# Altium schematic symbol library dungvh03-ICs.SchLib: 787 symbols (part 30 of 30)
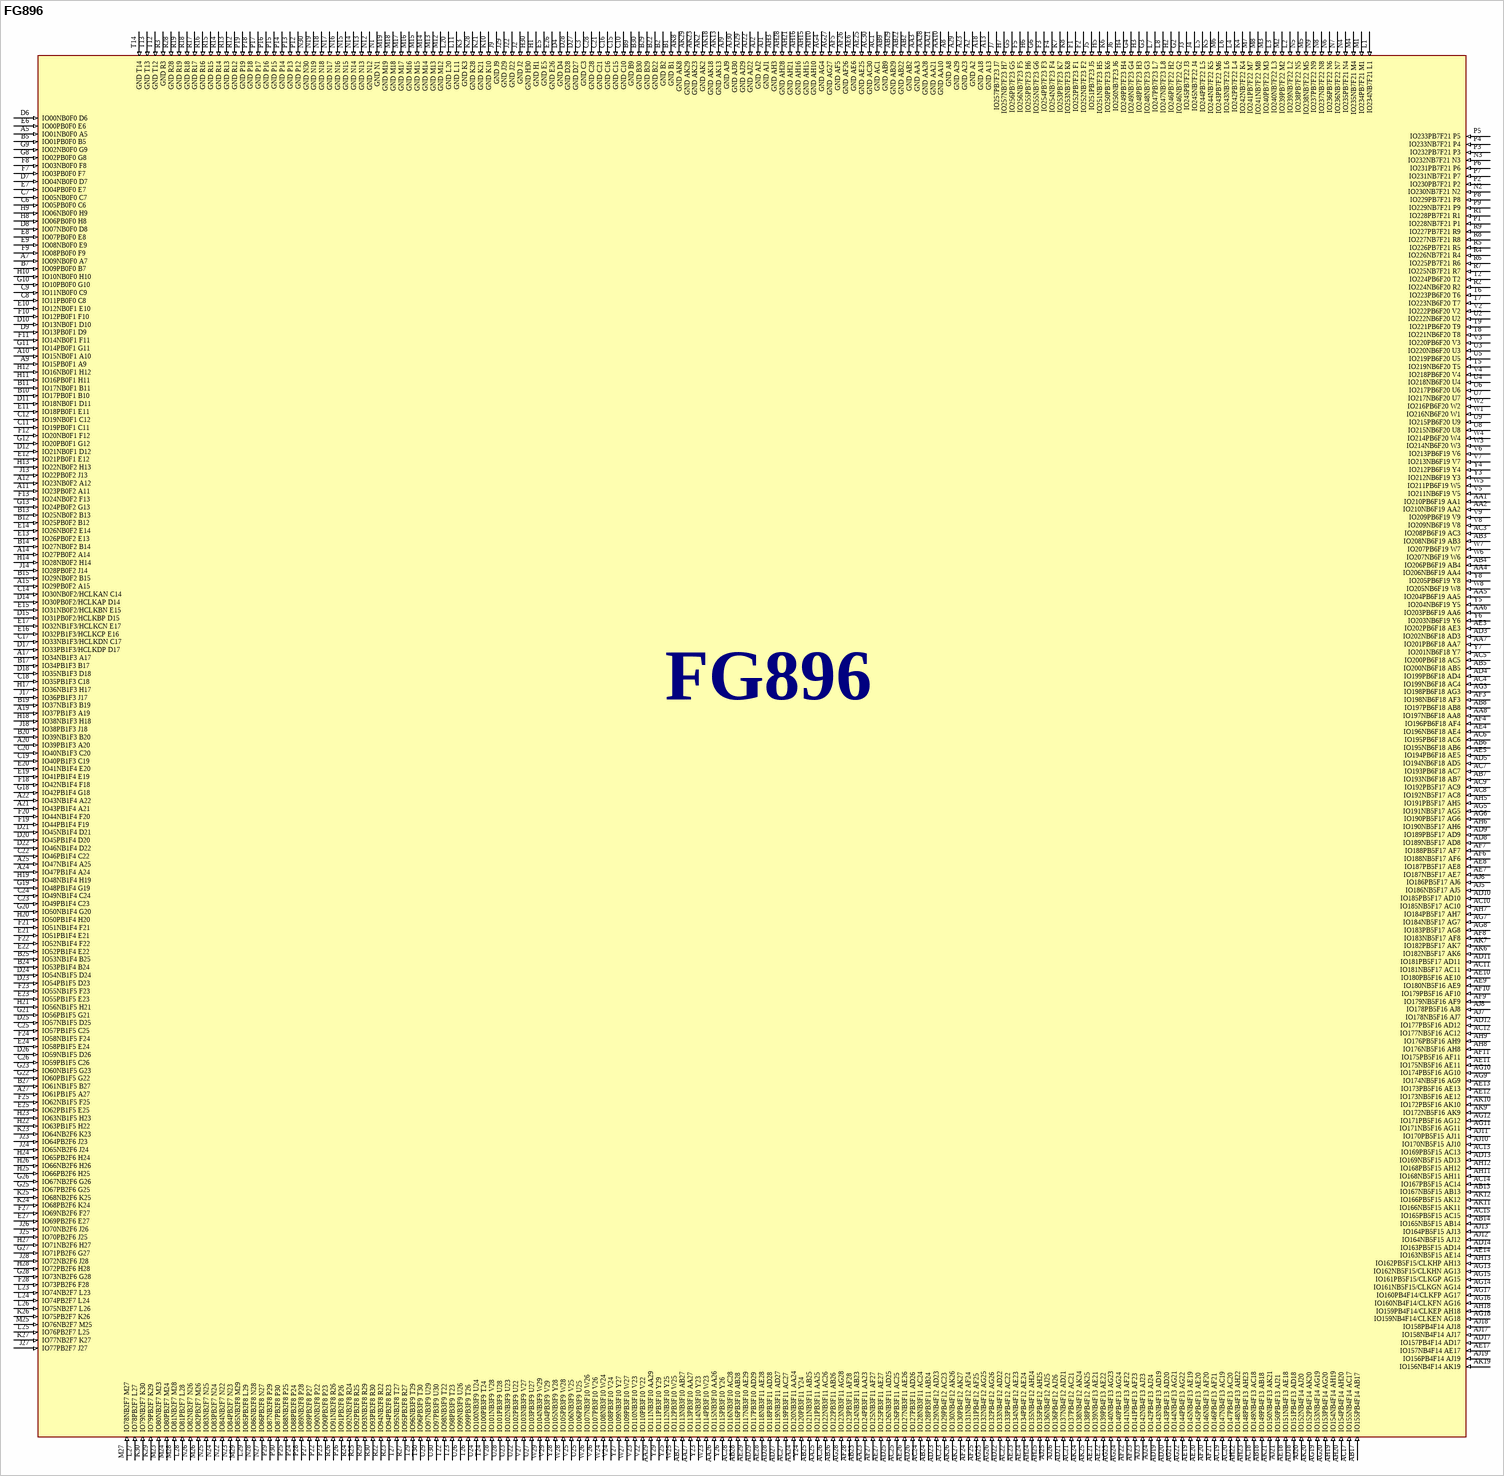
[diagram p127: symbol FG896]

## FG896
designator *
footprint FG896 (BGA, 896-Leads, Body 31.00x31.00mmx2.23mm, Pitch 1.00mm)
pins: A2 GND A2 (in), A5 IO01NB0F0 A5 (in), A7 IO09NB0F0 A7 (in), A8 GND A8 (in), A9 IO15PB0F1 A9 (in), A10 IO15NB0F1 A10 (in), A11 IO23PB0F2 A11 (in), A12 IO23NB0F2 A12 (in), A13 GND A13 (in), A14 IO27PB0F2 A14 (in), A15 IO29PB0F2 A15 (in), A17 IO34NB1F3 A17 (in), A18 GND A18 (in), A19 IO37PB1F3 A19 (in), A20 IO39PB1F3 A20 (in), A21 IO43PB1F4 A21 (in), A22 IO43NB1F4 A22 (in), A23 GND A23 (in), A24 IO47PB1F4 A24 (in), A25 IO47NB1F4 A25 (in), A27 IO61PB1F5 A27 (in), A29 GND A29 (in), AA1 IO210PB6F19 AA1 (in), AA2 IO210NB6F19 AA2 (in), AA3 GND AA3 (in), AA4 IO206NB6F19 AA4 (in), AA5 IO204PB6F19 AA5 (in), AA6 IO203PB6F19 AA6 (in), AA7 IO201PB6F18 AA7 (in), AA8 IO197NB6F18 AA8 (in), AA10 GND AA10 (in), AA21 GND AA21 (in), AA23 IO124PB3F11 AA23 (in), AA24 IO120NB3F11 AA24 (in), AA25 IO121PB3F11 AA25 (in), AA26 IO115NB3F10 AA26 (in), AA27 IO113PB3F10 AA27 (in), AA28 GND AA28 (in), AA29 IO111NB3F10 AA29 (in), AB2 GND AB2 (in), AB3 IO208NB6F19 AB3 (in), AB4 IO206PB6F19 AB4 (in), AB5 IO200NB6F18 AB5 (in), AB6 IO195NB6F18 AB6 (in), AB7 IO193NB6F18 AB7 (in), AB8 IO197PB6F18 AB8 (in), AB9 GND AB9 (in), AB13 IO167NB5F15 AB13 (in), AB14 IO165NB5F15 AB14 (in), AB17 IO155PB4F14 AB17 (in), AB18 IO149PB4F13 AB18 (in), AB22 GND AB22 (in), AB23 IO124NB3F11 AB23 (in), AB24 IO128PB3F11 AB24 (in), AB25 IO121NB3F11 AB25 (in), AB26 IO122PB3F11 AB26 (in), AB27 IO113NB3F10 AB27 (in), AB28 IO116PB3F10 AB28 (in), AB29 GND AB29 (in), AC1 GND AC1 (in), AC3 IO208PB6F19 AC3 (in), AC4 IO199NB6F18 AC4 (in), AC5 IO200PB6F18 AC5 (in), AC6 IO195PB6F18 AC6 (in), AC7 IO193PB6F18 AC7 (in), AC8 IO192NB5F17 AC8 (in), AC9 IO192PB5F17 AC9 (in), AC10 IO185NB5F17 AC10 (in), AC11 IO181NB5F17 AC11 (in), AC12 IO177NB5F16 AC12 (in), AC13 IO169PB5F15 AC13 (in), AC14 IO167PB5F15 AC14 (in), AC15 IO165PB5F15 AC15 (in), AC17 IO155NB4F14 AC17 (in), AC18 IO149NB4F13 AC18 (in), AC19 IO147NB4F13 AC19 (in), AC20 IO147PB4F13 AC20 (in), AC21 IO137PB4F12 AC21 (in), AC22 IO133PB4F12 AC22 (in), AC23 IO129PB4F12 AC23 (in), AC24 IO128NB3F11 AC24 (in), AC25 IO126PB3F11 AC25 (in), AC26 IO122NB3F11 AC26 (in), AC27 IO119PB3F11 AC27 (in), AC28 IO116NB3F10 AC28 (in), AC30 GND AC30 (in), AD3 IO202NB6F18 AD3 (in), AD4 IO199PB6F18 AD4 (in), AD5 IO194NB6F18 AD5 (in), AD8 IO189NB5F17 AD8 (in), AD9 IO189PB5F17 AD9 (in), AD10 IO185PB5F17 AD10 (in), AD11 IO181PB5F17 AD11 (in), AD12 IO177PB5F16 AD12 (in), AD13 IO169NB5F15 AD13 (in), AD14 IO163PB5F15 AD14 (in), AD17 IO157PB4F14 AD17 (in), AD18 IO151PB4F13 AD18 (in), AD19 IO143NB4F13 AD19 (in), AD20 IO143PB4F13 AD20 (in), AD21 IO137NB4F12 AD21 (in), AD22 IO133NB4F12 AD22 (in), AD23 IO129NB4F12 AD23 (in), AD25 IO126NB3F11 AD25 (in), AD26 IO127PB3F11 AD26 (in), AD27 IO119NB3F11 AD27 (in), AD28 IO118PB3F11 AD28 (in), AD29 IO117PB3F10 AD29 (in), AE3 IO202PB6F18 AE3 (in), AE4 IO196NB6F18 AE4 (in), AE5 IO194PB6F18 AE5 (in), AE6 GND AE6 (in), AE7 IO187NB5F17 AE7 (in), AE8 IO187PB5F17 AE8 (in), AE9 IO180NB5F16 AE9 (in), AE10 IO180PB5F16 AE10 (in), AE11 IO175NB5F16 AE11 (in), AE12 IO173NB5F16 AE12 (in), AE13 IO173PB5F16 AE13 (in), AE14 IO163NB5F15 AE14 (in), AE17 IO157NB4F14 AE17 (in), AE18 IO151NB4F13 AE18 (in), AE19 IO145NB4F13 AE19 (in), AE20 IO145PB4F13 AE20 (in), AE21 IO139NB4F13 AE21 (in), AE22 IO139PB4F13 AE22 (in), AE23 IO134NB4F12 AE23 (in), AE24 IO134PB4F12 AE24 (in), AE25 GND AE25 (in), AE26 IO127NB3F11 AE26 (in), AE27 IO125PB3F11 AE27 (in), AE28 IO118NB3F11 AE28 (in), AE29 IO117NB3F10 AE29 (in), AF3 IO198NB6F18 AF3 (in), AF4 IO196PB6F18 AF4 (in), AF5 GND AF5 (in), AF6 IO188NB5F17 AF6 (in), AF7 IO188PB5F17 AF7 (in), AF8 IO183NB5F17 AF8 (in), AF9 IO179NB5F16 AF9 (in), AF10 IO179PB5F16 AF10 (in), AF11 IO175PB5F16 AF11 (in), AF20 IO146NB4F13 AF20 (in), AF21 IO146PB4F13 AF21 (in), AF22 IO141NB4F13 AF22 (in), AF23 IO141PB4F13 AF23 (in), AF24 IO131NB4F12 AF24 (in), AF25 IO131PB4F12 AF25 (in), AF26 GND AF26 (in), AF27 IO125NB3F11 AF27 (in), AF28 IO123PB3F11 AF28 (in), AG3 IO198PB6F18 AG3 (in), AG4 GND AG4 (in), AG5 IO191NB5F17 AG5 (in), AG6 IO190PB5F17 AG6 (in), AG7 IO184NB5F17 AG7 (in), AG8 IO183PB5F17 AG8 (in), AG9 IO174NB5F16 AG9 (in), AG10 IO174PB5F16 AG10 (in), AG11 IO171NB5F16 AG11 (in), AG12 IO171PB5F16 AG12 (in), AG13 IO162NB5F15/CLKHN AG13 (in), AG14 IO161NB5F15/CLKGN AG14 (in), AG15 IO161PB5F15/CLKGP AG15 (in), AG16 IO160NB4F14/CLKFN AG16 (in), AG17 IO160PB4F14/CLKFP AG17 (in), AG18 IO159NB4F14/CLKEN AG18 (in), AG19 IO153NB4F14 AG19 (in), AG20 IO153PB4F14 AG20 (in), AG21 IO144NB4F13 AG21 (in), AG22 IO144PB4F13 AG22 (in), AG23 IO140NB4F13 AG23 (in), AG24 IO140PB4F13 AG24 (in), AG25 IO132NB4F12 AG25 (in), AG26 IO132PB4F12 AG26 (in), AG27 GND AG27 (in), AG28 IO123NB3F11 AG28 (in), AH3 GND AH3 (in), AH5 IO191PB5F17 AH5 (in), AH6 IO190NB5F17 AH6 (in), AH7 IO184PB5F17 AH7 (in), AH8 IO176NB5F16 AH8 (in), AH9 IO176PB5F16 AH9 (in), AH10 GND AH10 (in), AH11 IO168NB5F15 AH11 (in), AH12 IO168PB5F15 AH12 (in), AH13 IO162PB5F15/CLKHP AH13 (in), AH15 GND AH15 (in), AH16 GND AH16 (in), AH18 IO159PB4F14/CLKEP AH18 (in), AH19 IO154NB4F14 AH19 (in), AH20 IO154PB4F14 AH20 (in), AH21 GND AH21 (in), AH22 IO148NB4F13 AH22 (in), AH23 IO148PB4F13 AH23 (in), AH24 IO135NB4F12 AH24 (in), AH25 IO135PB4F12 AH25 (in), AH28 GND AH28 (in), AJ1 GND AJ1 (in), AJ2 GND AJ2 (in), AJ5 IO186NB5F17 AJ5 (in), AJ6 IO186PB5F17 AJ6 (in), AJ7 IO178NB5F16 AJ7 (in), AJ8 IO178PB5F16 AJ8 (in), AJ9 GND AJ9 (in), AJ10 IO170NB5F15 AJ10 (in), AJ11 IO170PB5F15 AJ11 (in), AJ12 IO164NB5F15 AJ12 (in), AJ13 IO164PB5F15 AJ13 (in), AJ17 IO158NB4F14 AJ17 (in), AJ18 IO158PB4F14 AJ18 (in), AJ19 IO156PB4F14 AJ19 (in), AJ20 IO152NB4F14 AJ20 (in), AJ21 IO150PB4F13 AJ21 (in), AJ22 GND AJ22 (in), AJ23 IO142NB4F13 AJ23 (in), AJ24 IO142PB4F13 AJ24 (in), AJ25 IO136NB4F12 AJ25 (in), AJ26 IO136PB4F12 AJ26 (in), AJ29 GND AJ29 (in), AJ30 GND AJ30 (in), AK2 GND AK2 (in), AK6 IO182NB5F17 AK6 (in), AK7 IO182PB5F17 AK7 (in), AK8 GND AK8 (in), AK9 IO172NB5F16 AK9 (in), AK10 IO172PB5F16 AK10 (in), AK11 IO166NB5F15 AK11 (in), AK12 IO166PB5F15 AK12 (in), AK13 GND AK13 (in), AK18 GND AK18 (in), AK19 IO156NB4F14 AK19 (in), AK20 IO152PB4F14 AK20 (in), AK21 IO150NB4F13 AK21 (in), AK23 GND AK23 (in), AK24 IO138NB4F12 AK24 (in), AK25 IO138PB4F12 AK25 (in), AK26 IO130NB4F12 AK26 (in), AK27 IO130PB4F12 AK27 (in), AK29 GND AK29 (in), B1 GND B1 (in), B2 GND B2 (in), B5 IO01PB0F0 B5 (in), B7 IO09PB0F0 B7 (in), B9 GND B9 (in), B10 IO17PB0F1 B10 (in), B11 IO17NB0F1 B11 (in), B12 IO25PB0F2 B12 (in), B13 IO25NB0F2 B13 (in), B14 IO27NB0F2 B14 (in), B15 IO29NB0F2 B15 (in), B17 IO34PB1F3 B17 (in), B19 IO37NB1F3 B19 (in), B20 IO39NB1F3 B20 (in), B22 GND B22 (in), B24 IO53PB1F4 B24 (in), B25 IO53NB1F4 B25 (in), B27 IO61NB1F5 B27 (in), B29 GND B29 (in), B30 GND B30 (in), C3 GND C3 (in), C6 IO05PB0F0 C6 (in), C7 IO05NB0F0 C7 (in), C8 IO11PB0F0 C8 (in), C9 IO11NB0F0 C9 (in), C10 GND C10 (in), C11 IO19PB0F1 C11 (in), C12 IO19NB0F1 C12 (in), C14 IO30NB0F2/HCLKAN C14 (in), C15 GND C15 (in), C16 GND C16 (in), C17 IO33NB1F3/HCLKDN C17 (in), C18 IO35PB1F3 C18 (in), C19 IO40PB1F3 C19 (in), C20 IO40NB1F3 C20 (in), C21 GND C21 (in), C22 IO46PB1F4 C22 (in), C23 IO49PB1F4 C23 (in), C24 IO49NB1F4 C24 (in), C25 IO57PB1F5 C25 (in), C26 IO59PB1F5 C26 (in), C28 GND C28 (in), D4 GND D4 (in), D6 IO00NB0F0 D6 (in), D7 IO04NB0F0 D7 (in), D8 IO07NB0F0 D8 (in), D9 IO13PB0F1 D9 (in), D10 IO13NB0F1 D10 (in), D11 IO18NB0F1 D11 (in), D12 IO21NB0F1 D12 (in), D14 IO30PB0F2/HCLKAP D14 (in), D15 IO31PB0F2/HCLKBP D15 (in), D17 IO33PB1F3/HCLKDP D17 (in), D18 IO35NB1F3 D18 (in), D20 IO45PB1F4 D20 (in), D21 IO45NB1F4 D21 (in), D22 IO46NB1F4 D22 (in), D23 IO54PB1F5 D23 (in), D24 IO54NB1F5 D24 (in), D25 IO57NB1F5 D25 (in), D26 IO59NB1F5 D26 (in), D27 GND D27 (in), D28 GND D28 (in), E5 GND E5 (in), E6 IO00PB0F0 E6 (in), E7 IO04PB0F0 E7 (in), E8 IO07PB0F0 E8 (in), E9 IO08NB0F0 E9 (in), E10 IO12NB0F1 E10 (in), E11 IO18PB0F1 E11 (in), E12 IO21PB0F1 E12 (in), E13 IO26PB0F2 E13 (in), E14 IO26NB0F2 E14 (in), E15 IO31NB0F2/HCLKBN E15 (in), E16 IO32PB1F3/HCLKCP E16 (in), E17 IO32NB1F3/HCLKCN E17 (in), E19 IO41PB1F4 E19 (in), E20 IO41NB1F4 E20 (in), E21 IO51PB1F4 E21 (in), E22 IO52PB1F4 E22 (in), E23 IO55PB1F5 E23 (in), E24 IO58PB1F5 E24 (in), E25 IO62PB1F5 E25 (in), E26 GND E26 (in), E27 IO69PB2F6 E27 (in), F1 IO252PB7F23 F1 (in), F2 IO252NB7F23 F2 (in), F3 IO254PB7F23 F3 (in), F4 IO254NB7F23 F4 (in), F5 IO256NB7F23 F5 (in), F7 IO03PB0F0 F7 (in), F8 IO03NB0F0 F8 (in), F9 IO08PB0F0 F9 (in), F10 IO12PB0F1 F10 (in), F11 IO14NB0F1 F11 (in), F12 IO20NB0F1 F12 (in), F13 IO24NB0F2 F13 (in), F18 IO42NB1F4 F18 (in), F19 IO44PB1F4 F19 (in), F20 IO44NB1F4 F20 (in), F21 IO51NB1F4 F21 (in), F22 IO52NB1F4 F22 (in), F23 IO55NB1F5 F23 (in), F24 IO58NB1F5 F24 (in), F25 IO62NB1F5 F25 (in), F27 IO69NB2F6 F27 (in), F28 IO73PB2F6 F28 (in), G2 IO246NB7F22 G2 (in), G3 IO248NB7F23 G3 (in), G4 IO249NB7F23 G4 (in), G5 IO256PB7F23 G5 (in), G6 IO255NB7F23 G6 (in), G8 IO02PB0F0 G8 (in), G9 IO02NB0F0 G9 (in), G10 IO10PB0F0 G10 (in), G11 IO14PB0F1 G11 (in), G12 IO20PB0F1 G12 (in), G13 IO24PB0F2 G13 (in), G18 IO42PB1F4 G18 (in), G19 IO48PB1F4 G19 (in), G20 IO50NB1F4 G20 (in), G21 IO56PB1F5 G21 (in), G22 IO60PB1F5 G22 (in), G23 IO60NB1F5 G23 (in), G25 IO67PB2F6 G25 (in), G26 IO67NB2F6 G26 (in), G27 IO71PB2F6 G27 (in), G28 IO73NB2F6 G28 (in), H1 GND H1 (in), H2 IO246PB7F22 H2 (in), H3 IO248PB7F23 H3 (in), H4 IO249PB7F23 H4 (in), H5 IO251NB7F23 H5 (in), H6 IO255PB7F23 H6 (in), H7 IO257NB7F23 H7 (in), H8 IO06PB0F0 H8 (in), H9 IO06NB0F0 H9 (in), H10 IO10NB0F0 H10 (in), H11 IO16PB0F1 H11 (in), H12 IO16NB0F1 H12 (in), H13 IO22NB0F2 H13 (in), H14 IO28NB0F2 H14 (in), H17 IO36NB1F3 H17 (in), H18 IO38NB1F3 H18 (in), H19 IO48NB1F4 H19 (in), H20 IO50PB1F4 H20 (in), H21 IO56NB1F5 H21 (in), H22 IO63PB1F5 H22 (in), H23 IO63NB1F5 H23 (in), H24 IO65PB2F6 H24 (in), H25 IO66PB2F6 H25 (in), H26 IO66NB2F6 H26 (in), H27 IO71NB2F6 H27 (in), H28 IO72PB2F6 H28 (in), H30 GND H30 (in), J2 GND J2 (in), J3 IO245PB7F22 J3 (in), J4 IO245NB7F22 J4 (in), J5 IO251PB7F23 J5 (in), J6 IO250NB7F23 J6 (in), J7 IO257PB7F23 J7 (in), J9 GND J9 (in), J13 IO22PB0F2 J13 (in), J14 IO28PB0F2 J14 (in), J17 IO36PB1F3 J17 (in), J18 IO38PB1F3 J18 (in), J22 GND J22 (in), J23 IO64PB2F6 J23 (in), J24 IO65NB2F6 J24 (in), J25 IO70PB2F6 J25 (in), J26 IO70NB2F6 J26 (in), J27 IO77PB2F7 J27 (in), J28 IO72NB2F6 J28 (in), J29 GND J29 (in), K3 GND K3 (in), K4 IO242NB7F22 K4 (in), K5 IO244NB7F22 K5 (in), K6 IO250PB7F23 K6 (in), K7 IO253PB7F23 K7 (in), K8 IO253NB7F23 K8 (in), K10 GND K10 (in), K21 GND K21 (in), K23 IO64NB2F6 K23 (in), K24 IO68PB2F6 K24 (in), K25 IO68NB2F6 K25 (in), K26 IO75PB2F7 K26 (in), K27 IO77NB2F7 K27 (in), K28 GND K28 (in), K29 IO79PB2F7 K29 (in), K30 IO79NB2F7 K30 (in), L1 IO234NB7F21 L1 (in), L2 IO239NB7F22 L2 (in), L3 IO240NB7F22 L3 (in), L4 IO242PB7F22 L4 (in), L5 IO244PB7F22 L5 (in), L6 IO243NB7F22 L6 (in), L7 IO247PB7F23 L7 (in), L8 IO247NB7F23 L8 (in), L11 GND L11 (in), L20 GND L20 (in), L23 IO74NB2F7 L23 (in), L24 IO74PB2F7 L24 (in), L25 IO76PB2F7 L25 (in), L26 IO75NB2F7 L26 (in), L27 IO78PB2F7 L27 (in), L28 IO81PB2F7 L28 (in), L29 IO85PB2F8 L29 (in), M1 IO234PB7F21 M1 (in), M2 IO239PB7F22 M2 (in), M3 IO240PB7F22 M3 (in), M4 IO235NB7F21 M4 (in), M5 IO238NB7F22 M5 (in), M6 IO243PB7F22 M6 (in), M7 IO241PB7F22 M7 (in), M8 IO241NB7F22 M8 (in), M12 GND M12 (in), M13 GND M13 (in), M14 GND M14 (in), M15 GND M15 (in), M16 GND M16 (in), M17 GND M17 (in), M18 GND M18 (in), M19 GND M19 (in), M23 IO80NB2F7 M23 (in), M24 IO80PB2F7 M24 (in), M25 IO76NB2F7 M25 (in), M26 IO82PB2F7 M26 (in), M27 IO78NB2F7 M27 (in), M28 IO81NB2F7 M28 (in), M29 IO85NB2F8 M29 (in), N1 GND N1 (in), N2 IO230NB7F21 N2 (in), N3 IO232NB7F21 N3 (in), N4 IO235PB7F21 N4 (in), N5 IO238PB7F22 N5 (in), N6 IO236PB7F22 N6 (in), N7 IO236NB7F22 N7 (in), N8 IO237NB7F22 N8 (in), N9 IO237PB7F22 N9 (in), N12 GND N12 (in), N13 GND N13 (in), N14 GND N14 (in), N15 GND N15 (in), N16 GND N16 (in), N17 GND N17 (in), N18 GND N18 (in), N19 GND N19 (in), N22 IO84NB2F7 N22 (in), N23 IO84PB2F7 N23 (in), N24 IO83PB2F7 N24 (in), N25 IO83NB2F7 N25 (in), N26 IO82NB2F7 N26 (in), N27 IO86PB2F8 N27 (in), N28 IO86NB2F8 N28 (in), N30 GND N30 (in), P1 IO228NB7F21 P1 (in), P2 IO230PB7F21 P2 (in), P3 IO232PB7F21 P3 (in), P4 IO233NB7F21 P4 (in), P5 IO233PB7F21 P5 (in), P6 IO231PB7F21 P6 (in), P7 IO231NB7F21 P7 (in), P8 IO229PB7F21 P8 (in), P9 IO229NB7F21 P9 (in), P12 GND P12 (in), P13 GND P13 (in), P14 GND P14 (in), P15 GND P15 (in), P16 GND P16 (in), P17 GND P17 (in), P18 GND P18 (in), P19 GND P19 (in), P22 IO90NB2F8 P22 (in), P23 IO90PB2F8 P23 (in), P24 IO88PB2F8 P24 (in), P25 IO88NB2F8 P25 (in), P26 IO91PB2F8 P26 (in), P27 IO89PB2F8 P27 (in), P28 IO89NB2F8 P28 (in), P29 IO87NB2F8 P29 (in), P30 IO87PB2F8 P30 (in), R1 IO228PB7F21 R1 (in), R2 IO224NB6F20 R2 (in), R3 GND R3 (in), R4 IO226NB7F21 R4 (in), R5 IO226PB7F21 R5 (in), R6 IO225PB7F21 R6 (in), R7 IO225NB7F21 R7 (in), R8 IO227NB7F21 R8 (in), R9 IO227PB7F21 R9 (in), R12 GND R12 (in), R13 GND R13 (in), R14 GND R14 (in), R15 GND R15 (in), R16 GND R16 (in), R17 GND R17 (in), R18 GND R18 (in), R19 GND R19 (in), R22 IO94NB2F8 R22 (in), R23 IO94PB2F8 R23 (in), R24 IO92NB2F8 R24 (in), R25 IO92PB2F8 R25 (in), R26 IO91NB2F8 R26 (in), R27 IO95PB2F8 R27 (in), R28 GND R28 (in), R29 IO93NB2F8 R29 (in), R30 IO93PB2F8 R30 (in), T2 IO224PB6F20 T2 (in), T5 IO219NB6F20 T5 (in), T6 IO223PB6F20 T6 (in), T7 IO223NB6F20 T7 (in), T8 IO221NB6F20 T8 (in), T9 IO221PB6F20 T9 (in), T12 GND T12 (in), T13 GND T13 (in), T14 GND T14 (in), T22 IO98NB3F9 T22 (in), T23 IO98PB3F9 T23 (in), T24 IO100PB3F9 T24 (in), T26 IO99PB3F9 T26 (in), T27 IO95NB2F8 T27 (in), T29 IO96NB3F9 T29 (in), T30 IO96PB3F9 T30 (in), U2 IO222NB6F20 U2 (in), U3 IO220NB6F20 U3 (in), U4 IO218NB6F20 U4 (in), U5 IO219PB6F20 U5 (in), U6 IO217PB6F20 U6 (in), U7 IO217NB6F20 U7 (in), U8 IO215NB6F20 U8 (in), U9 IO215PB6F20 U9 (in), U22 IO102PB3F9 U22 (in), U23 IO102NB3F9 U23 (in), U24 IO100NB3F9 U24 (in), U25 IO106PB3F9 U25 (in), U26 IO99NB3F9 U26 (in), U27 IO103PB3F9 U27 (in), U28 IO101PB3F9 U28 (in), U29 IO97NB3F9 U29 (in), U30 IO97PB3F9 U30 (in), V2 IO222PB6F20 V2 (in), V3 IO220PB6F20 V3 (in), V4 IO218PB6F20 V4 (in), V5 IO211NB6F19 V5 (in), V6 IO213PB6F19 V6 (in), V7 IO213NB6F19 V7 (in), V8 IO209NB6F19 V8 (in), V9 IO209PB6F19 V9 (in), V22 IO110PB3F10 V22 (in), V23 IO110NB3F10 V23 (in), V24 IO108PB3F10 V24 (in), V25 IO106NB3F9 V25 (in), V26 IO107PB3F10 V26 (in), V27 IO103NB3F9 V27 (in), V28 IO101NB3F9 V28 (in), V29 IO104PB3F9 V29 (in), W1 IO216NB6F20 W1 (in), W2 IO216PB6F20 W2 (in), W3 IO214NB6F20 W3 (in), W4 IO214PB6F20 W4 (in), W5 IO211PB6F19 W5 (in), W6 IO207NB6F19 W6 (in), W7 IO207PB6F19 W7 (in), W8 IO205NB6F19 W8 (in), W23 IO114PB3F10 W23 (in), W24 IO108NB3F10 W24 (in), W25 IO112PB3F10 W25 (in), W26 IO107NB3F10 W26 (in), W27 IO109PB3F10 W27 (in), W28 IO105PB3F9 W28 (in), W29 IO104NB3F9 W29 (in), Y3 IO212NB6F19 Y3 (in), Y4 IO212PB6F19 Y4 (in), Y5 IO204NB6F19 Y5 (in), Y6 IO203NB6F19 Y6 (in), Y7 IO201NB6F18 Y7 (in), Y8 IO205PB6F19 Y8 (in), Y23 IO114NB3F10 Y23 (in), Y24 IO120PB3F11 Y24 (in), Y25 IO112NB3F10 Y25 (in), Y26 IO115PB3F10 Y26 (in), Y27 IO109NB3F10 Y27 (in), Y28 IO105NB3F9 Y28 (in), Y29 IO111PB3F10 Y29 (in)

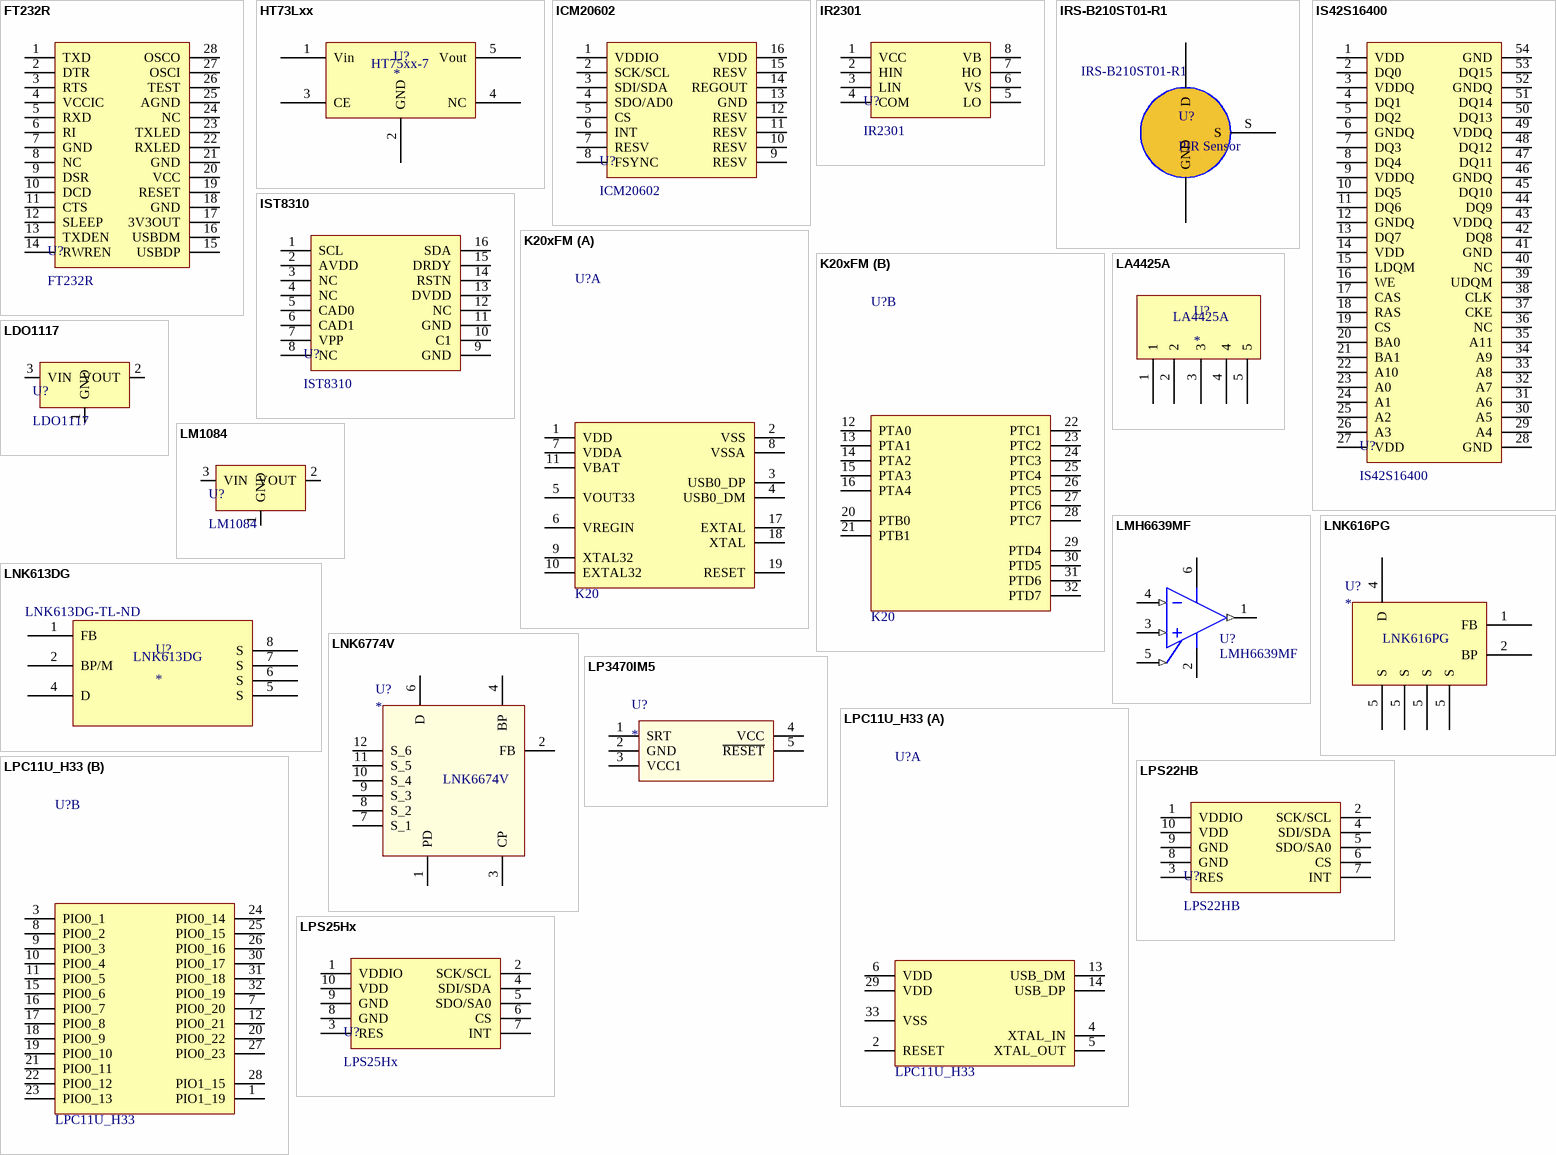
[diagram p93: symbols FT232R to LPS25Hx]

## FT232R
designator U?
USB2UART
footprint SSOP_E210_P0.65_28
pins: 1 TXD, 2 DTR, 3 RTS, 4 VCCIC, 5 RXD, 6 RI, 7 GND, 8 NC, 9 DSR, 10 DCD, 11 CTS, 12 SLEEP, 13 TXDEN, 14 RWREN, 15 USBDP, 16 USBDM, 17 3V3OUT, 18 GND, 19 RESET, 20 VCC, 21 GND, 22 RXLED, 23 TXLED, 24 NC, 25 AGND, 26 TEST, 27 OSCI, 28 OSCO

## HT73Lxx
designator U?
footprint SOT23-5
pins: 1 Vin, 2 GND, 3 CE, 4 NC, 5 Vout
text: HT75xx-7

## ICM20602
designator U?
Sensor Motion; Type: LGA16 P0.5
footprint LGA_P0.5_16
pins: 1 VDDIO, 2 SCK/SCL, 3 SDI/SDA, 4 SDO/AD0, 5 CS, 6 INT, 7 RESV, 8 FSYNC, 9 RESV, 10 RESV, 11 RESV, 12 RESV, 13 GND, 14 REGOUT, 15 RESV, 16 VDD

## IR2301
designator U?
MOSFET Driver
footprint SOP_E150_8
pins: 1 VCC, 2 HIN, 3 LIN, 4 COM, 5 LO, 6 VS, 7 HO, 8 VB

## IRS-B210ST01-R1
designator U?, comment PIR Sensor
Supplier 1: Digi-Key; Supplier Part Number 1: 490-12776-1-ND
footprint IRS-B210ST01-R1
pins: D, G GND, S

## IS42S16400
designator U?
SDRAM
footprint TSOP_E400_P0.8_54
pins: 1 VDD, 2 DQ0, 3 VDDQ, 4 DQ1, 5 DQ2, 6 GNDQ, 7 DQ3, 8 DQ4, 9 VDDQ, 10 DQ5, 11 DQ6, 12 GNDQ, 13 DQ7, 14 VDD, 15 LDQM, 16 WE, 17 CAS, 18 RAS, 19 CS, 20 BA0, 21 BA1, 22 A10, 23 A0, 24 A1, 25 A2, 26 A3, 27 VDD, 28 GND, 29 A4, 30 A5, 31 A6, 32 A7, 33 A8, 34 A9, 35 A11, 36 NC, 37 CKE, 38 CLK, 39 UDQM, 40 NC, 41 GND, 42 DQ8, 43 VDDQ, 44 DQ9, 45 DQ10, 46 GNDQ, 47 DQ11, 48 DQ12, 49 VDDQ, 50 DQ13, 51 DQ14, 52 GNDQ, 53 DQ15, 54 GND

## IST8310
designator U?
Sensor Magnetometer; Type: QFN16 P0.5
footprint QFN_P0.5_16
pins: 1 SCL, 2 AVDD, 3 NC, 4 NC, 5 CAD0, 6 CAD1, 7 VPP, 8 NC, 9 GND, 10 C1, 11 GND, 12 NC, 13 DVDD, 14 RSTN, 15 DRDY, 16 SDA

## K20xFM
designator U?, comment K20
MCU
footprint QFN_P0.5_32
part A pins: 1 VDD, 2 VSS, 3 USB0_DP, 4 USB0_DM, 5 VOUT33, 6 VREGIN, 7 VDDA, 8 VSSA, 9 XTAL32, 10 EXTAL32, 11 VBAT, 17 EXTAL, 18 XTAL, 19 RESET
part B pins: 12 PTA0, 13 PTA1, 14 PTA2, 15 PTA3, 16 PTA4, 20 PTB0, 21 PTB1, 22 PTC1, 23 PTC2, 24 PTC3, 25 PTC4, 26 PTC5, 27 PTC6, 28 PTC7, 29 PTD4, 30 PTD5, 31 PTD6, 32 PTD7

## LA4425A
designator U?
footprint LA4425A
pins: 1, 2, 3, 4, 5

## LDO1117
designator U?
Power; Type: SOT223-3
footprint SOT223-3
footprint SOT89-3
pins: 1 GND, 2 VOUT, 3 VIN

## LM1084
designator U?
Power
footprint TO-263-3
pins: 1 GND, 2 VOUT (power), 3 VIN

## LMH6639MF
designator U?
Op-Amp 190MHz; Manufacturer Part#: LMH6639MF/NOPB; Manufacturer: National Semiconductor; Digi-Key#: LMH6639MFCT-ND
footprint SOT23-6
pins: 1 OUT (out), 2 V- (power), 3 IN+ (in), 4 IN- (in), 5 nSD (in), 6 V+ (power)

## LNK613DG
designator U?  Supplier Part Number 1: LNK613DG-TL-ND
Supplier 1: Digi-Key
footprint SO-8C
pins: 1 FB, 2 BP/M, 4 D, 5 S, 6 S, 7 S, 8 S

## LNK616PG
designator U?
pins: 1 FB, 2 BP, 4 D, 5 S, 5 S, 5 S, 5 S

## LNK6774V
designator U?
footprint LNK6674V
pins: 1 PD, 2 FB, 3 CP, 4 BP, 6 D, 7 S_1, 8 S_2, 9 S_3, 10 S_4, 11 S_5, 12 S_6
text: LNK6674V

## LP3470IM5
designator U?
footprint SOT23_5
pins: 1 SRT, 2 GND, 3 VCC1, 4 VCC, 5 ~{RESET}

## LPC11U_H33
designator U?
MCU
footprint QFN_P0.5_32
part A pins: 2 RESET, 4 XTAL_IN, 5 XTAL_OUT, 6 VDD, 13 USB_DM, 14 USB_DP, 29 VDD, 33 VSS
part B pins: 1 PIO1_19, 3 PIO0_1, 7 PIO0_20, 8 PIO0_2, 9 PIO0_3, 10 PIO0_4, 11 PIO0_5, 12 PIO0_21, 15 PIO0_6, 16 PIO0_7, 17 PIO0_8, 18 PIO0_9, 19 PIO0_10, 20 PIO0_22, 21 PIO0_11, 22 PIO0_12, 23 PIO0_13, 24 PIO0_14, 25 PIO0_15, 26 PIO0_16, 27 PIO0_23, 28 PIO1_15, 30 PIO0_17, 31 PIO0_18, 32 PIO0_19

## LPS22HB
designator U?
Sensor Pressure; Type: LGA10 P0.5
footprint HCLGA-2x2_10
pins: 1 VDDIO, 2 SCK/SCL, 3 RES, 4 SDI/SDA, 5 SDO/SA0, 6 CS, 7 INT, 8 GND, 9 GND, 10 VDD

## LPS25Hx
designator U?
Sensor Pressure
footprint HCLGA-2.5x2.5_10
pins: 1 VDDIO, 2 SCK/SCL, 3 RES, 4 SDI/SDA, 5 SDO/SA0, 6 CS, 7 INT, 8 GND, 9 GND, 10 VDD

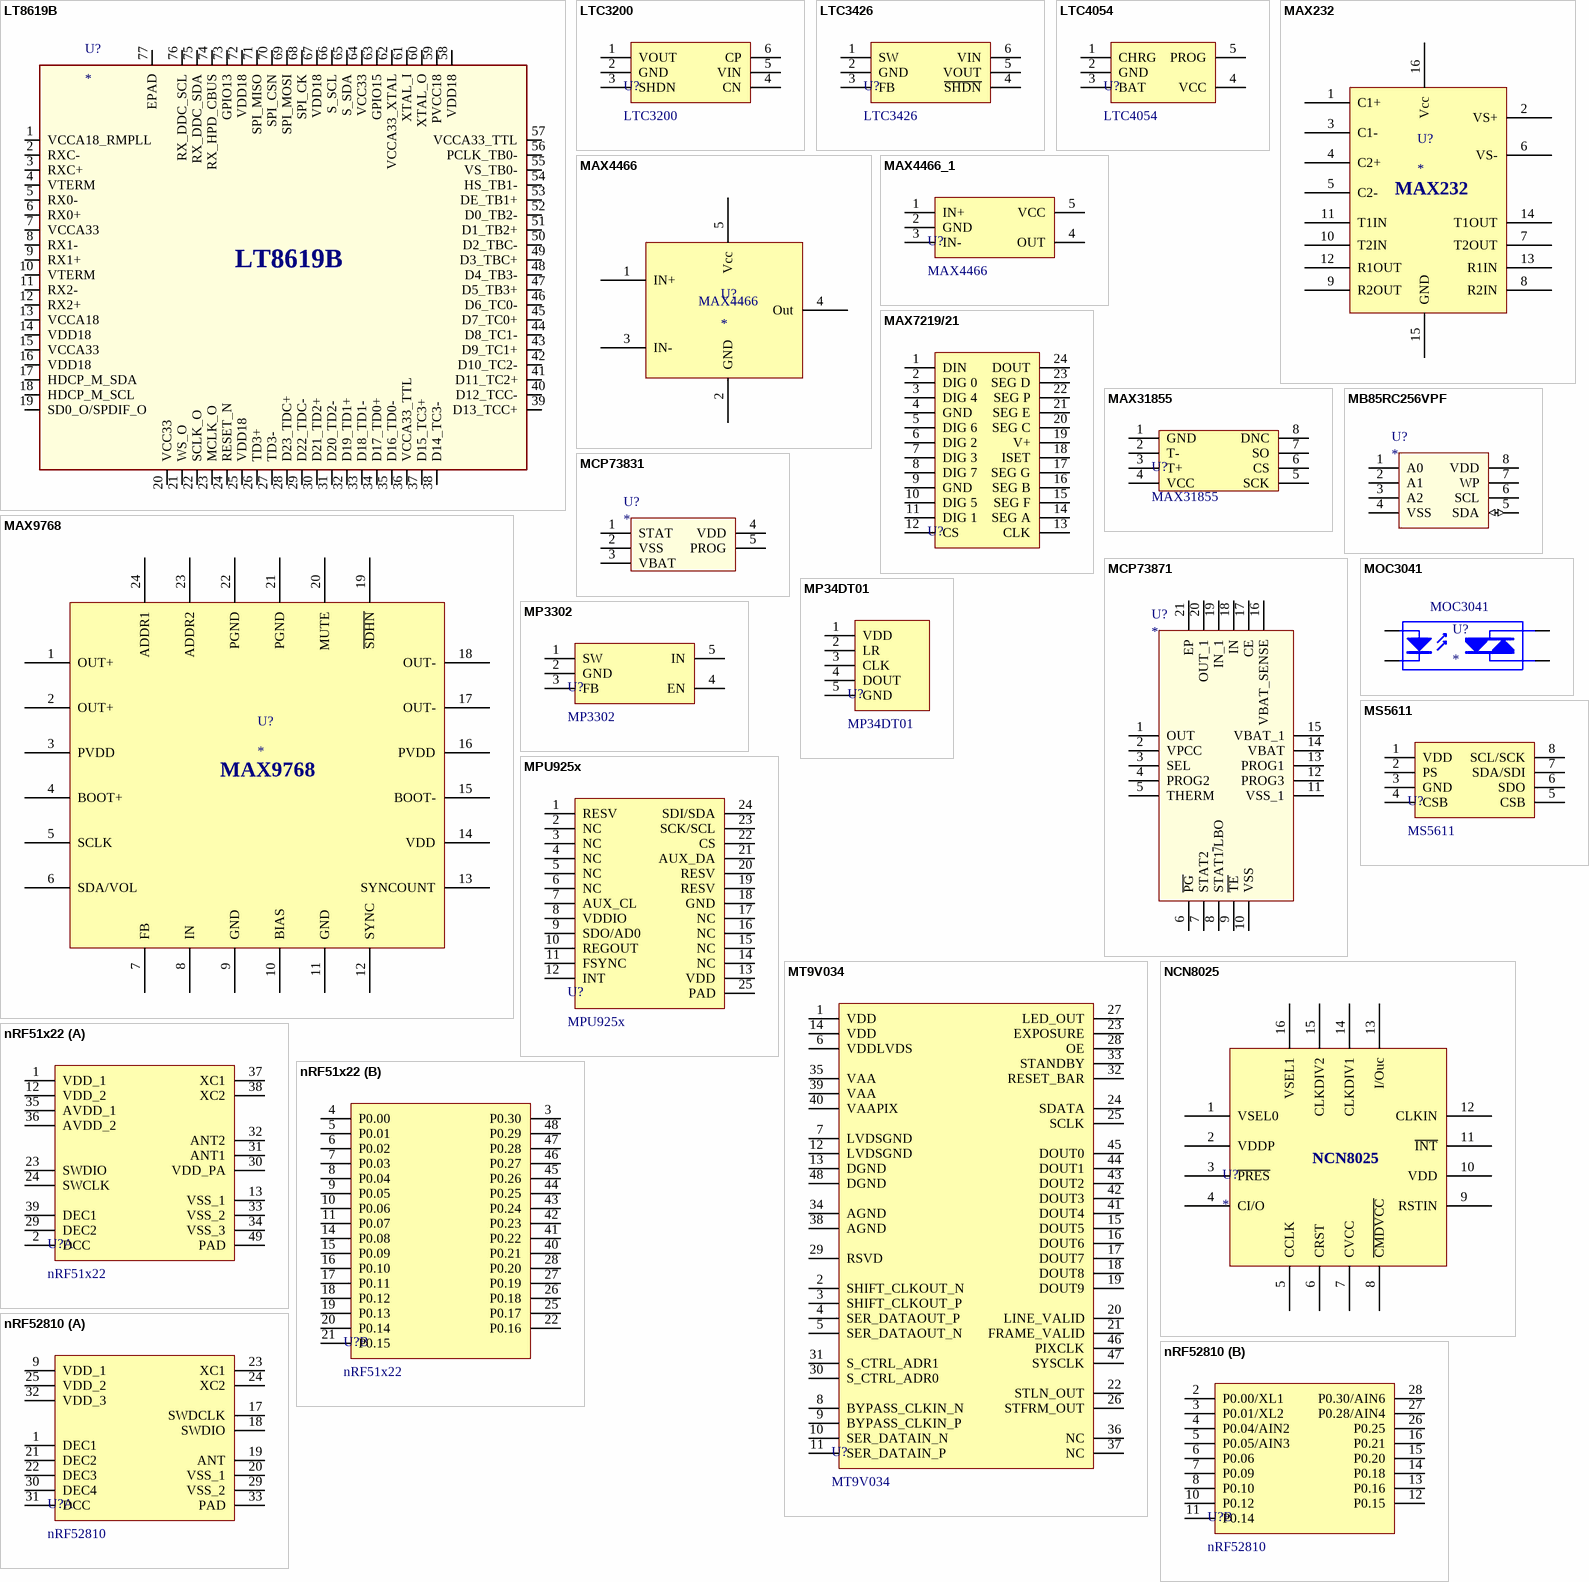
[diagram p94: symbols LT8619B to nRF52810]

## LT8619B
designator U?
footprint QFN76
pins: 1 VCCA18_RMPLL, 2 RXC-, 3 RXC+, 4 VTERM, 5 RX0-, 6 RX0+, 7 VCCA33, 8 RX1-, 9 RX1+, 10 VTERM, 11 RX2-, 12 RX2+, 13 VCCA18, 14 VDD18, 15 VCCA33, 16 VDD18, 17 HDCP_M_SDA, 18 HDCP_M_SCL, 19 SD0_O/SPDIF_O, 20 VCC33, 21 WS_O, 22 SCLK_O, 23 MCLK_O, 24 RESET_N, 25 VDD18, 26 TD3+, 27 TD3-, 28 D23_TDC+, 29 D22_TDC-, 30 D21_TD2+, 31 D20_TD2-, 32 D19_TD1+, 33 D18_TD1-, 34 D17_TD0+, 35 D16_TD0-, 36 VCCA33_TTL, 37 D15_TC3+, 38 D14_TC3-, 39 D13_TCC+, 40 D12_TCC-, 41 D11_TC2+, 42 D10_TC2-, 43 D9_TC1+, 44 D8_TC1-, 45 D7_TC0+, 46 D6_TC0-, 47 D5_TB3+, 48 D4_TB3-, 49 D3_TBC+, 50 D2_TBC-, 51 D1_TB2+, 52 D0_TB2-, 53 DE_TB1+, 54 HS_TB1-, 55 VS_TB0-, 56 PCLK_TB0-, 57 VCCA33_TTL, 58 VDD18, 59 PVCC18, 60 XTAL_O, 61 XTAL_I, 62 VCCA33_XTAL, 63 GPIO15, 64 VCC33, 65 S_SDA, 66 S_SCL, 67 VDD18, 68 SPI_CK, 69 SPI_MOSI, 70 SPI_CSN, 71 SPI_MISO, 72 VDD18, 73 GPIO13, 74 RX_HPD_CBUS, 75 RX_DDC_SDA, 76 RX_DDC_SCL, 77 EPAD

## LTC3200
designator U?
Power; Type: SOT23-6
footprint SOT23-6
pins: 1 VOUT, 2 GND, 3 SHDN, 4 CN, 5 VIN, 6 CP

## LTC3426
designator U?
Power; Type: SOT23-6
footprint SOT23-6
pins: 1 SW, 2 GND, 3 FB, 4 ~{SHDN}, 5 VOUT, 6 VIN

## LTC4054
designator U?
Charge
footprint SOT23-5
pins: 1 CHRG, 2 GND, 3 BAT, 4 VCC, 5 PROG

## MAX232
designator U?
footprint SOIC16 (9.90 mm × 3.91 mm)
pins: 1 C1+, 2 VS+, 3 C1-, 4 C2+, 5 C2-, 6 VS-, 7 T2OUT, 8 R2IN, 9 R2OUT, 10 T2IN, 11 T1IN , 12 R1OUT, 13 R1IN, 14 T1OUT, 15 GND, 16 Vcc

## MAX4466
designator U?
footprint SOT23
pins: 1 IN+, 2 GND, 3 IN-, 4 Out, 5 Vcc

## MAX4466_1
designator U?, comment MAX4466
Microphone
footprint SOT23-5
pins: 1 IN+, 2 GND, 3 IN-, 4 OUT, 5 VCC

## MAX7219/21
designator U?  (value not drawn)
Driver
footprint SOP_E300_24
pins: 1 DIN, 2 DIG 0, 3 DIG 4, 4 GND, 5 DIG 6, 6 DIG 2, 7 DIG 3, 8 DIG 7, 9 GND, 10 DIG 5, 11 DIG 1, 12 CS, 13 CLK, 14 SEG A, 15 SEG F, 16 SEG B, 17 SEG G, 18 ISET, 19 V+, 20 SEG C, 21 SEG E, 22 SEG P, 23 SEG D, 24 DOUT

## MAX9768
designator U?
footprint TQFN-24 4x4
pins: 1 OUT+, 2 OUT+, 3 PVDD, 4 BOOT+, 5 SCLK, 6 SDA/VOL, 7 FB, 8 IN, 9 GND, 10 BIAS, 11 GND, 12 SYNC, 13 SYNCOUNT, 14 VDD, 15 BOOT-, 16 PVDD, 17 OUT-, 18 OUT-, 19 ~{SDHN}, 20 MUTE, 21 PGND, 22 PGND, 23 ADDR2, 24 ADDR1

## MAX31855
designator U?
Thermocouple
footprint SOIC_E200_8
pins: 1 GND, 2 T-, 3 T+, 4 VCC, 5 SCK, 6 CS, 7 SO, 8 DNC

## MB85RC256VPF
designator U?
footprint SOIC127P798X210
pins: 1 A0, 2 A1, 3 A2, 4 VSS, 5 SDA (io), 6 SCL, 7 WP, 8 VDD (power)

## MCP73831
designator U?
footprint SOT95P270X145
pins: 1 STAT, 2 VSS, 3 VBAT, 4 VDD, 5 PROG

## MCP73871
designator U?
footprint QFN50P400x400
pins: 1 OUT, 2 VPCC, 3 SEL, 4 PROG2, 5 THERM, 6 ~{PG}, 7 STAT2, 8 STAT1~{/}LBO, 9 ~{TE}, 10 VSS, 11 VSS_1, 12 PROG3, 13 PROG1, 14 VBAT, 15 VBAT_1, 16 VBAT_SENSE, 17 CE, 18 IN, 19 IN_1, 20 OUT_1, 21 EP

## MOC3041
designator U?
Supplier 1: RSComponents; Supplier Part Number 1: 806-6023P
footprint SMT-6 PIN (SOP, 6-Leads, Body 8.50x6.35mm, Pitch 2.54mm, IPC Medium Density)
pins: 1 A, 2 K, 4 A/K, 6 A/K

## MP34DT01
designator U?
Sensor Microphone
footprint HCLGA_3x4_4
pins: 1 VDD, 2 LR, 3 CLK, 4 DOUT, 5 GND

## MP3302
designator U?
WLED Driver
footprint SOT23-5
pins: 1 SW, 2 GND, 3 FB, 4 EN, 5 IN

## MPU925x
designator U?
Sensor Motion; Type: QFN24 P0.4
footprint QFN_P0.4_24
pins: 1 RESV, 2 NC, 3 NC, 4 NC, 5 NC, 6 NC, 7 AUX_CL, 8 VDDIO, 9 SDO/AD0, 10 REGOUT, 11 FSYNC, 12 INT, 13 VDD, 14 NC, 15 NC, 16 NC, 17 NC, 18 GND, 19 RESV, 20 RESV, 21 AUX_DA, 22 CS, 23 SCK/SCL, 24 SDI/SDA, 25 PAD

## MS5611
designator U?
Sensor
footprint OTHER_MS5611_8
pins: 1 VDD, 2 PS, 3 GND, 4 CSB, 5 CSB, 6 SDO, 7 SDA/SDI, 8 SCL/SCK

## MT9V034
designator U?
CMOS
footprint CLCC_48 (LCC, 48-Pins, Body 11.43x11.43mmx2.30mm, Pitch 0.80mm, IPC Medium Density)
pins: 1 VDD, 2 SHIFT_CLKOUT_N, 3 SHIFT_CLKOUT_P, 4 SER_DATAOUT_P, 5 SER_DATAOUT_N, 6 VDDLVDS, 7 LVDSGND, 8 BYPASS_CLKIN_N, 9 BYPASS_CLKIN_P, 10 SER_DATAIN_N, 11 SER_DATAIN_P, 12 LVDSGND, 13 DGND, 14 VDD, 15 DOUT5, 16 DOUT6, 17 DOUT7, 18 DOUT8, 19 DOUT9, 20 LINE_VALID, 21 FRAME_VALID, 22 STLN_OUT, 23 EXPOSURE, 24 SDATA, 25 SCLK, 26 STFRM_OUT, 27 LED_OUT, 28 OE, 29 RSVD, 30 S_CTRL_ADR0, 31 S_CTRL_ADR1, 32 RESET_BAR, 33 STANDBY, 34 AGND, 35 VAA, 36 NC, 37 NC, 38 AGND, 39 VAA, 40 VAAPIX, 41 DOUT4, 42 DOUT3, 43 DOUT2, 44 DOUT1, 45 DOUT0, 46 PIXCLK, 47 SYSCLK, 48 DGND

## NCN8025
designator U?
footprint QFN-16
pins: 1 VSEL0, 2 VDDP, 3 ~{PRES}, 4 CI/O, 5 CCLK, 6 CRST, 7 CVCC, 8 ~{CMDVCC}, 9 RSTIN, 10 VDD, 11 ~{INT}, 12 CLKIN, 13 I/Ouc, 14 CLKDIV1, 15 CLKDIV2, 16 VSEL1

## nRF51x22
designator U?
MCU; Value: 32MHz; Type: QFN48 P0.4
footprint QFN_P0.4_48
part A pins: 1 VDD_1, 2 DCC, 12 VDD_2, 13 VSS_1, 23 SWDIO, 24 SWCLK, 29 DEC2, 30 VDD_PA, 31 ANT1, 32 ANT2, 33 VSS_2, 34 VSS_3, 35 AVDD_1, 36 AVDD_2, 37 XC1, 38 XC2, 39 DEC1, 49 PAD
part B pins: 3 P0.30, 4 P0.00, 5 P0.01, 6 P0.02, 7 P0.03, 8 P0.04, 9 P0.05, 10 P0.06, 11 P0.07, 14 P0.08, 15 P0.09, 16 P0.10, 17 P0.11, 18 P0.12, 19 P0.13, 20 P0.14, 21 P0.15, 22 P0.16, 25 P0.17, 26 P0.18, 27 P0.19, 28 P0.20, 40 P0.21, 41 P0.22, 42 P0.23, 43 P0.24, 44 P0.25, 45 P0.26, 46 P0.27, 47 P0.28, 48 P0.29

## nRF52810
designator U?
MCU; Value: 64MHz; Type: QFN48 P0.4
footprint QFN_P0.5_32
part A pins: 1 DEC1, 9 VDD_1, 17 SWDCLK, 18 SWDIO, 19 ANT, 20 VSS_1, 21 DEC2, 22 DEC3, 23 XC1, 24 XC2, 25 VDD_2, 29 VSS_2, 30 DEC4, 31 DCC, 32 VDD_3, 33 PAD
part B pins: 2 P0.00/XL1, 3 P0.01/XL2, 4 P0.04/AIN2, 5 P0.05/AIN3, 6 P0.06, 7 P0.09, 8 P0.10, 10 P0.12, 11 P0.14, 12 P0.15, 13 P0.16, 14 P0.18, 15 P0.20, 16 P0.21, 26 P0.25, 27 P0.28/AIN4, 28 P0.30/AIN6

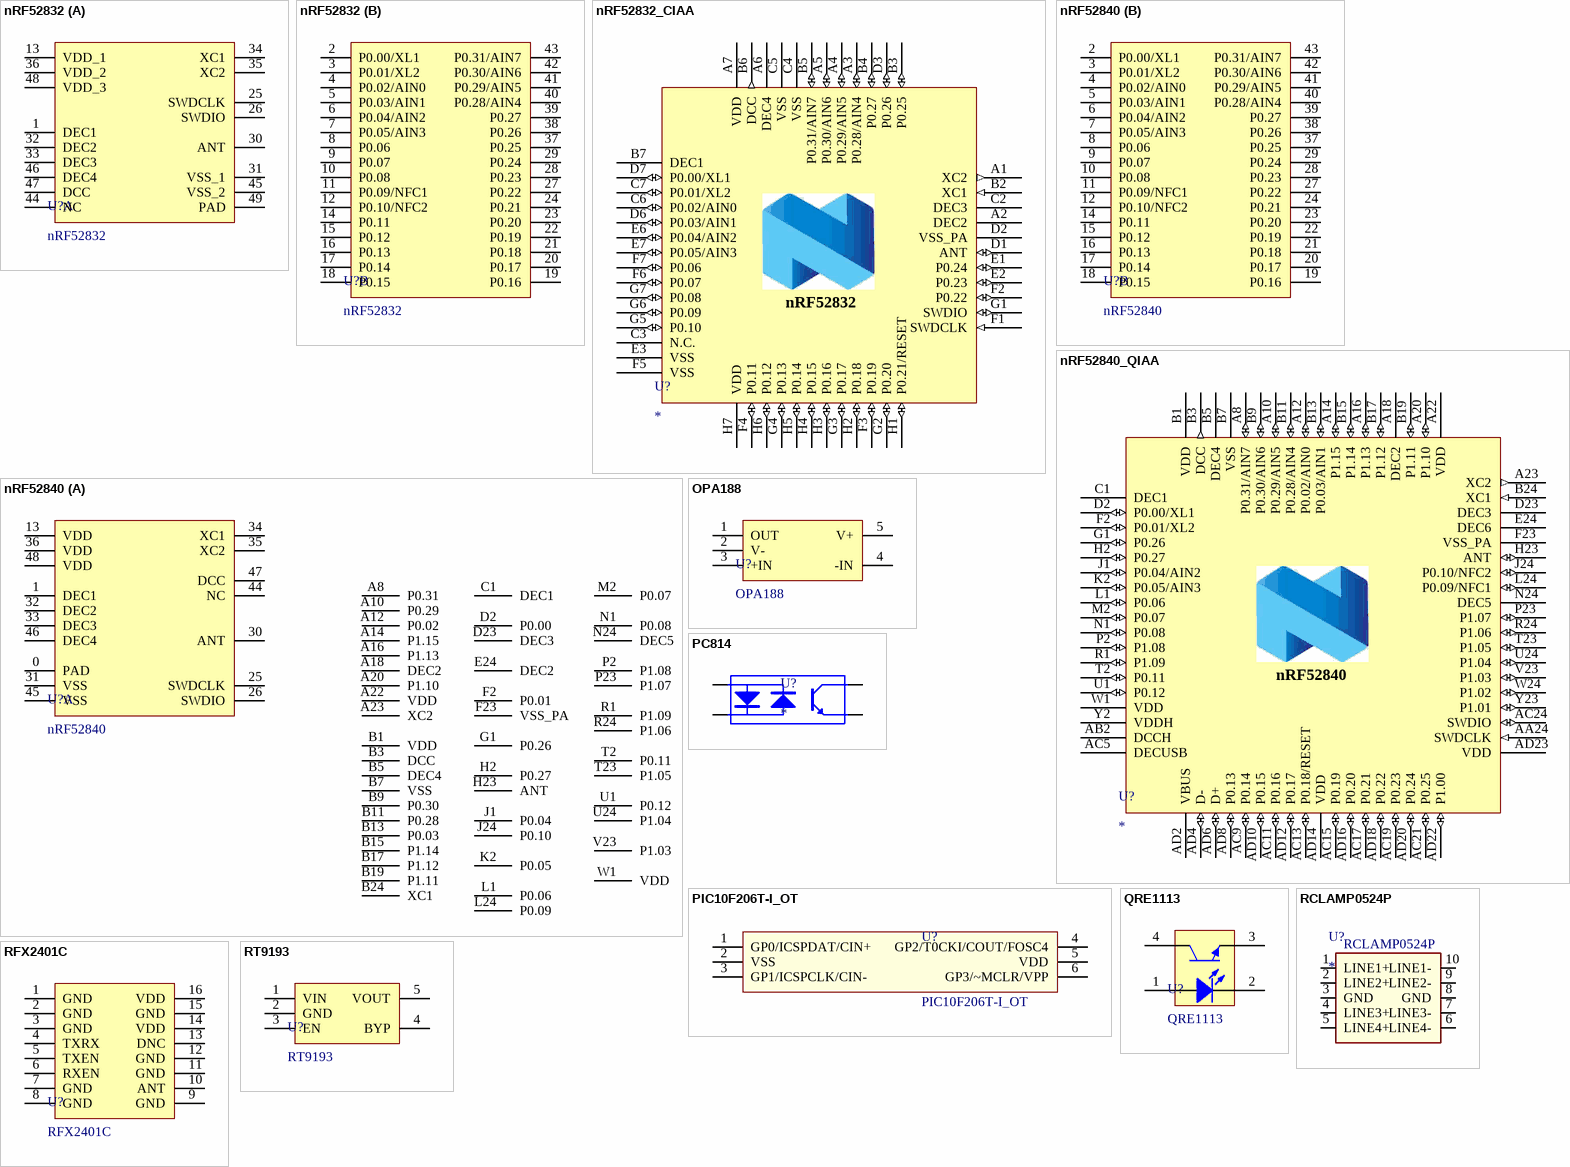
[diagram p95: symbols nRF52832 to RT9193]

## nRF52832
designator U?
MCU; Value: 64MHz; Type: QFN48 P0.4
footprint QFN_P0.4_48
part A pins: 1 DEC1, 13 VDD_1, 25 SWDCLK, 26 SWDIO, 30 ANT, 31 VSS_1, 32 DEC2, 33 DEC3, 34 XC1, 35 XC2, 36 VDD_2, 44 NC, 45 VSS_2, 46 DEC4, 47 DCC, 48 VDD_3, 49 PAD
part B pins: 2 P0.00/XL1, 3 P0.01/XL2, 4 P0.02/AIN0, 5 P0.03/AIN1, 6 P0.04/AIN2, 7 P0.05/AIN3, 8 P0.06, 9 P0.07, 10 P0.08, 11 P0.09/NFC1, 12 P0.10/NFC2, 14 P0.11, 15 P0.12, 16 P0.13, 17 P0.14, 18 P0.15, 19 P0.16, 20 P0.17, 21 P0.18, 22 P0.19, 23 P0.20, 24 P0.21, 27 P0.22, 28 P0.23, 29 P0.24, 37 P0.25, 38 P0.26, 39 P0.27, 40 P0.28/AIN4, 41 P0.29/AIN5, 42 P0.30/AIN6, 43 P0.31/AIN7

## nRF52832_CIAA
designator U?
footprint BGA50C40P7X8_295X322X50
pins: A1 XC2 (out), A2 DEC2 (power), A3 P0.28/AIN4 (io), A4 P0.29/AIN5 (io), A5 P0.30/AIN6 (io), A6 DEC4 (power), A7 VDD (power), B2 XC1 (in), B3 P0.25 (io), B4 P0.27 (io), B5 P0.31/AIN7 (io), B6 DCC (out), B7 DEC1 (power), C2 DEC3 (power), C3 N.C. (power), C4 VSS (power), C5 VSS (power), C6 P0.02/AIN0 (io), C7 P0.01/XL2 (io), D1 ANT (io), D2 VSS_PA (power), D3 P0.26 (io), D6 P0.03/AIN1 (io), D7 P0.00/XL1 (io), E1 P0.24 (io), E2 P0.23 (io), E3 VSS (power), E6 P0.04/AIN2 (io), E7 P0.05/AIN3 (io), F1 SWDCLK (in), F2 P0.22 (io), F3 P0.19 (io), F4 P0.11 (io), F5 VSS (power), F6 P0.07 (io), F7 P0.06 (io), G1 SWDIO (io), G2 P0.20 (io), G3 P0.17 (io), G4 P0.13 (io), G5 P0.10 (io), G6 P0.09 (io), G7 P0.08 (io), H1 P0.21/RESET (io), H2 P0.18 (io), H3 P0.16 (io), H4 P0.15 (io), H5 P0.14 (io), H6 P0.12 (io), H7 VDD (power)
text: nRF52832

## nRF52840
designator U?
MCU
footprint AQFN_P0.5_73
part A pins: 0 PAD, 1 DEC1, 13 VDD, 25 SWDCLK, 26 SWDIO, 30 ANT, 31 VSS, 32 DEC2, 33 DEC3, 34 XC1, 35 XC2, 36 VDD, 44 NC, 45 VSS, 46 DEC4, 47 DCC, 48 VDD, A8 P0.31, A10 P0.29, A12 P0.02, A14 P1.15, A16 P1.13, A18 DEC2, A20 P1.10, A22 VDD, A23 XC2, B1 VDD, B3 DCC, B5 DEC4, B7 VSS, B9 P0.30, B11 P0.28, B13 P0.03, B15 P1.14, B17 P1.12, B19 P1.11, B24 XC1, C1 DEC1, D2 P0.00, D23 DEC3, E24 DEC2, F2 P0.01, F23 VSS_PA, G1 P0.26, H2 P0.27, H23 ANT, J1 P0.04, J24 P0.10, K2 P0.05, L1 P0.06, L24 P0.09, M2 P0.07, N1 P0.08, N24 DEC5, P2 P1.08, P23 P1.07, R1 P1.09, R24 P1.06, T2 P0.11, T23 P1.05, U1 P0.12, U24 P1.04, V23 P1.03, W1 VDD
part B pins: 2 P0.00/XL1, 3 P0.01/XL2, 4 P0.02/AIN0, 5 P0.03/AIN1, 6 P0.04/AIN2, 7 P0.05/AIN3, 8 P0.06, 9 P0.07, 10 P0.08, 11 P0.09/NFC1, 12 P0.10/NFC2, 14 P0.11, 15 P0.12, 16 P0.13, 17 P0.14, 18 P0.15, 19 P0.16, 20 P0.17, 21 P0.18, 22 P0.19, 23 P0.20, 24 P0.21, 27 P0.22, 28 P0.23, 29 P0.24, 37 P0.25, 38 P0.26, 39 P0.27, 40 P0.28/AIN4, 41 P0.29/AIN5, 42 P0.30/AIN6, 43 P0.31/AIN7

## nRF52840_QIAA
designator U?
footprint nRF52840_QIAA
pins: A8 P0.31/AIN7 (io), A10 P0.29/AIN5 (io), A12 P0.02/AIN0 (io), A14 P1.15 (io), A16 P1.13 (io), A18 DEC2 (power), A20 P1.10 (io), A22 VDD (power), A23 XC2 (out), AA24 SWDCLK (in), AB2 DCCH (power), AC5 DECUSB (power), AC9 P0.14 (io), AC11 P0.16 (io), AC13 P0.18/RESET (io), AC15 P0.19 (io), AC17 P0.21 (io), AC19 P0.23 (io), AC21 P0.25 (io), AC24 SWDIO (io), AD2 VBUS (power), AD4 D- (io), AD6 D+ (io), AD8 P0.13 (io), AD10 P0.15 (io), AD12 P0.17 (io), AD14 VDD (power), AD16 P0.20 (io), AD18 P0.22 (io), AD20 P0.24 (io), AD22 P1.00 (io), AD23 VDD (power), B1 VDD (power), B3 DCC (out), B5 DEC4 (power), B7 VSS (power), B9 P0.30/AIN6 (io), B11 P0.28/AIN4 (io), B13 P0.03/AIN1 (io), B15 P1.14 (io), B17 P1.12 (io), B19 P1.11 (io), B24 XC1 (in), C1 DEC1 (power), D2 P0.00/XL1 (io), D23 DEC3 (power), E24 DEC6 (power), F2 P0.01/XL2 (io), F23 VSS_PA (power), G1 P0.26 (io), H2 P0.27 (io), H23 ANT (io), J1 P0.04/AIN2 (io), J24 P0.10/NFC2 (io), K2 P0.05/AIN3 (io), L1 P0.06 (io), L24 P0.09/NFC1 (io), M2 P0.07 (io), N1 P0.08 (io), N24 DEC5 (power), P2 P1.08 (io), P23 P1.07 (io), R1 P1.09 (io), R24 P1.06 (io), T2 P0.11 (io), T23 P1.05 (io), U1 P0.12 (io), U24 P1.04 (io), V23 P1.03 (io), W1 VDD (power), W24 P1.02 (io), Y2 VDDH (power), Y23 P1.01 (io)
text: nRF52840

## OPA188
designator U?
OP
footprint SOT23-5
pins: 1 OUT, 2 V-, 3 +IN, 4 -IN, 5 V+

## PC814
designator U?
footprint SMT-4
pins: 1 A "Anode", 2 K "Cathode", 3 E "Emitter", 4 C "Collector"

## PIC10F206T-I_OT
designator U?
8-bit Flash Microcontroller; Manufacturer_Name: Microchip; Manufacturer_Part_Number: PIC10F206T-I/OT; Allied_Number: 70046211; RS Part Number: 2508408815; RS Price/Stock: http://uk.rs-online.com/web/p/products/2508408815; Allied Price/Stock: https://www.alliedelec.com/microchip-technology-inc-pic10f206t-i-ot/70046211/; Arrow Part Number: PIC10F206T-I/OT; Arrow Price/Stock: https://www.arrow.com/en/products/pic10f206t-iot/microchip-technology; Datasheet Link: *
footprint SOT23-6N
pins: 1 GP0/ICSPDAT/CIN+, 2 VSS, 3 GP1/ICSPCLK/CIN-, 4 GP2/T0CKI/COUT/FOSC4, 5 VDD, 6 GP3/~MCLR/VPP

## QRE1113
designator U?
Sensor IR
footprint QRE1113GR
pins: 1 A, 2 C, 3 E, 4 C

## RCLAMP0524P
designator U?
footprint RCLAMP0524P
pins: 1 LINE1+, 2 LINE2+, 3 GND (power), 4 LINE3+, 5 LINE4+, 6 LINE4-, 7 LINE3-, 8 GND (power), 9 LINE2-, 10 LINE1-

## RFX2401C
designator U?
Radio PA/LNA; Type: QFN16 P0.5
footprint QFN_P0.5_16
pins: 1 GND, 2 GND, 3 GND, 4 TXRX, 5 TXEN, 6 RXEN, 7 GND, 8 GND, 9 GND, 10 ANT, 11 GND, 12 GND, 13 DNC, 14 VDD, 15 GND, 16 VDD

## RT9193
designator U?
Power; Value: 3V3; Type: SOT23-5
footprint SOT23-5
pins: 1 VIN, 2 GND, 3 EN (power), 4 BYP, 5 VOUT

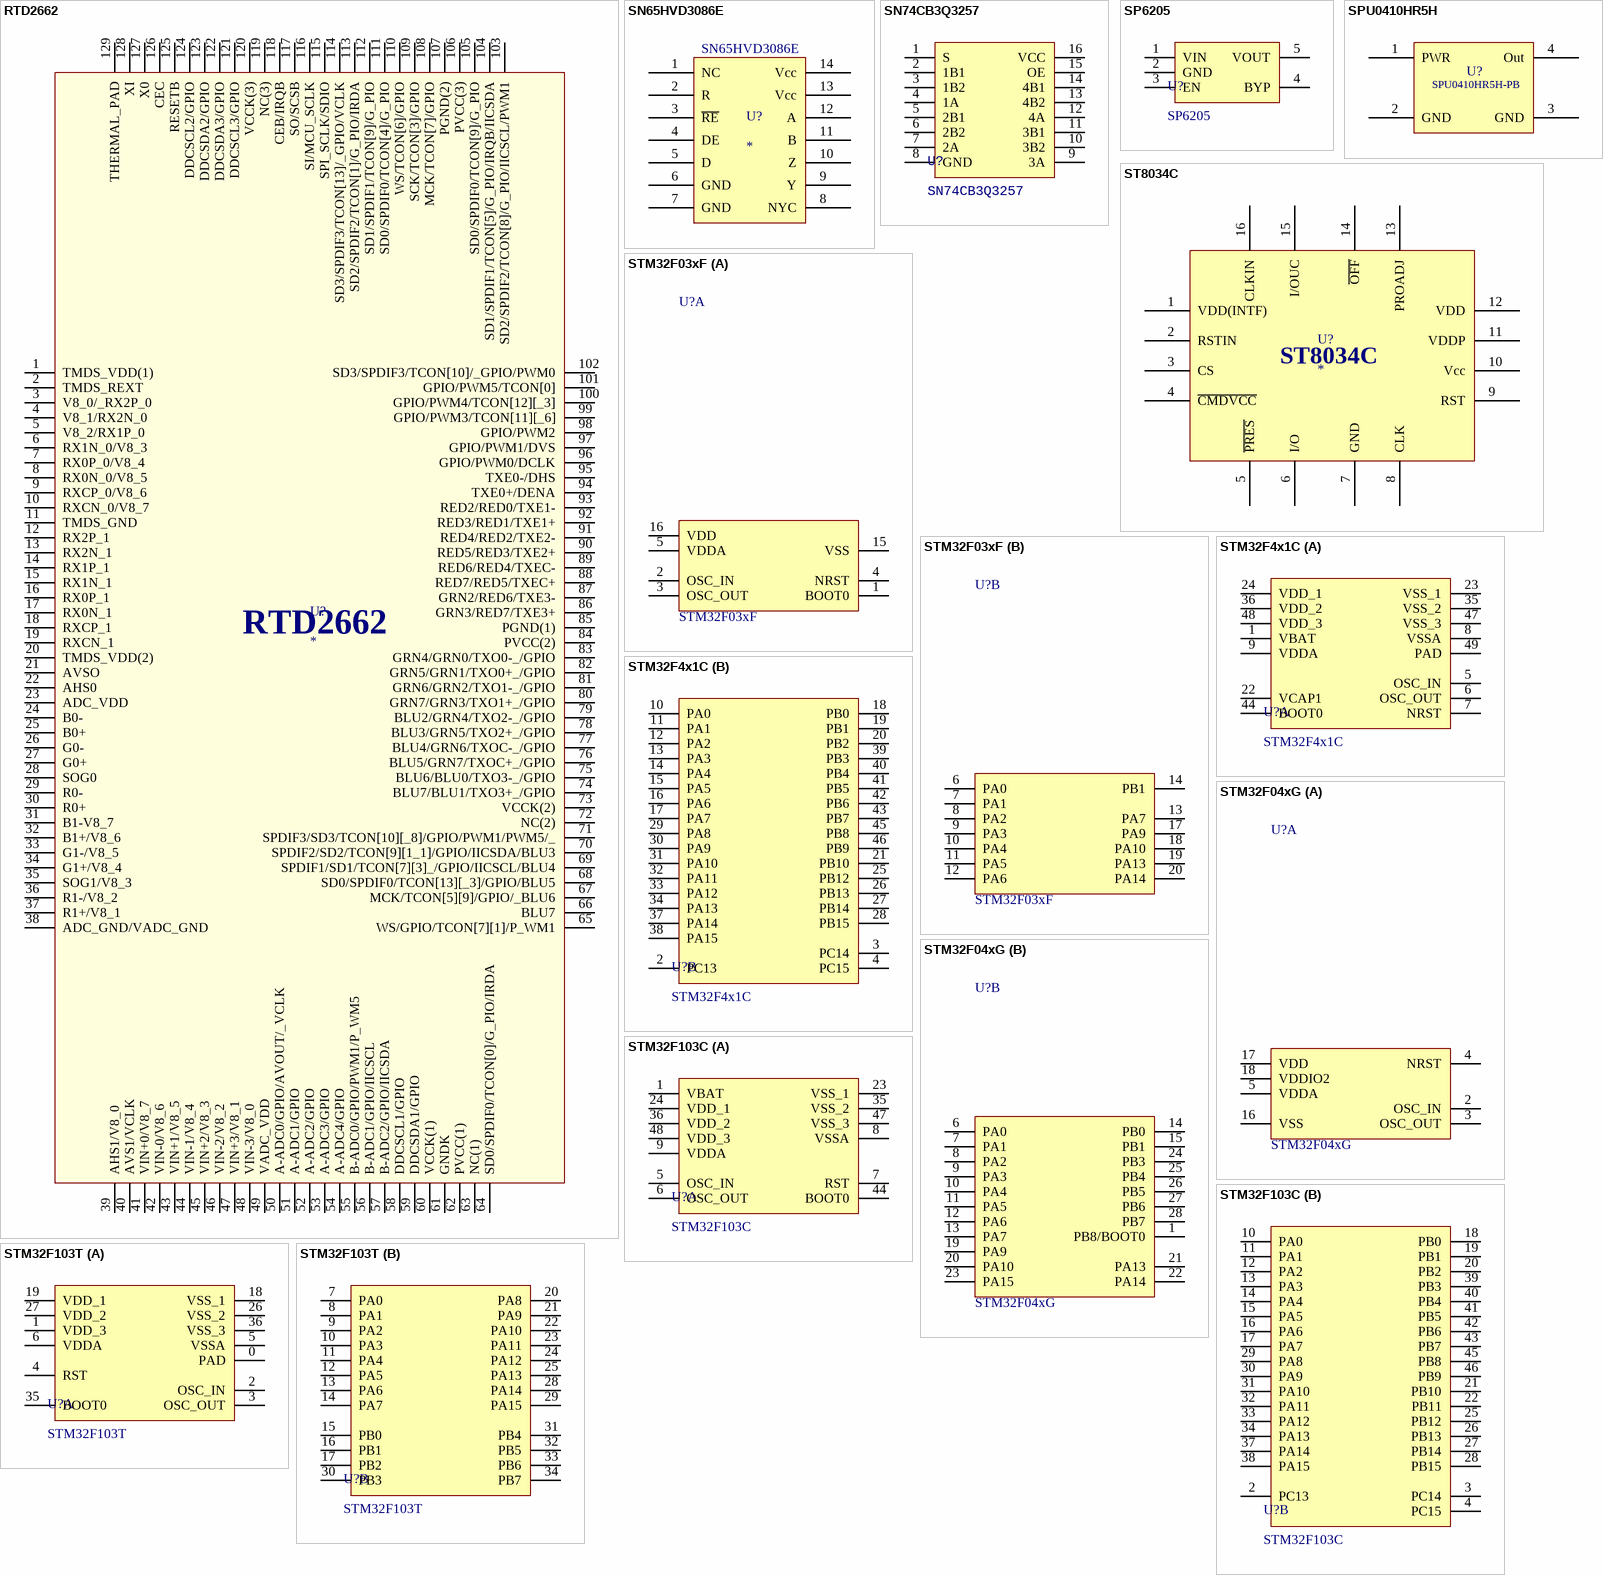
[diagram p96: symbols RTD2662 to STM32F103T]

## RTD2662
designator U?
footprint QFP128
pins: 1 TMDS_VDD(1), 2 TMDS_REXT, 3 V8_0/_RX2P_0, 4 V8_1/RX2N_0, 5 V8_2/RX1P_0, 6 RX1N_0/V8_3, 7 RX0P_0/V8_4, 8 RX0N_0/V8_5, 9 RXCP_0/V8_6, 10 RXCN_0/V8_7, 11 TMDS_GND, 12 RX2P_1, 13 RX2N_1, 14 RX1P_1, 15 RX1N_1, 16 RX0P_1, 17 RX0N_1, 18 RXCP_1, 19 RXCN_1, 20 TMDS_VDD(2), 21 AVSO, 22 AHS0, 23 ADC_VDD, 24 B0-, 25 B0+, 26 G0-, 27 G0+, 28 SOG0, 29 R0-, 30 R0+, 31 B1-V8_7, 32 B1+/V8_6, 33 G1-/V8_5, 34 G1+/V8_4, 35 SOG1/V8_3, 36 R1-/V8_2, 37 R1+/V8_1, 38 ADC_GND/VADC_GND, 39 AHS1/V8_0, 40 AVS1/VCLK, 41 VIN+0/V8_7, 42 VIN-0/V8_6, 43 VIN+1/V8_5, 44 VIN-1/V8_4, 45 VIN+2/V8_3, 46 VIN-2/V8_2, 47 VIN+3/V8_1, 48 VIN-3/V8_0, 49 VADC_VDD, 50 A-ADC0/GPIO/AVOUT/_VCLK, 51 A-ADC1/GPIO, 52 A-ADC2/GPIO, 53 A-ADC3/GPIO, 54 A-ADC4/GPIO, 55 B-ADC0/GPIO/PWM1/P_WM5, 56 B-ADC1/GPIO/IICSCL, 57 B-ADC2/GPIO/IICSDA, 58 DDCSCL1/GPIO, 59 DDCSDA1/GPIO, 60 VCCK(1), 61 GNDK, 62 PVCC(1), 63 NC(1), 64 SD0/SPDIF0/TCON[0]/G_PIO/IRDA, 65 WS/GPIO/TCON[7][1]/P_WM1, 66 BLU7, 67 MCK/TCON[5][9]/GPIO/_BLU6, 68 SD0/SPDIF0/TCON[13][_3]/GPIO/BLU5, 69 SPDIF1/SD1/TCON[7][3]_/GPIO/IICSCL/BLU4, 70 SPDIF2/SD2/TCON[9][1_1]/GPIO/IICSDA/BLU3, 71 SPDIF3/SD3/TCON[10][_8]/GPIO/PWM1/PWM5/_, 72 NC(2), 73 VCCK(2), 74 BLU7/BLU1/TXO3+_/GPIO, 75 BLU6/BLU0/TXO3-_/GPIO, 76 BLU5/GRN7/TXOC+_/GPIO, 77 BLU4/GRN6/TXOC-_/GPIO, 78 BLU3/GRN5/TXO2+_/GPIO, 79 BLU2/GRN4/TXO2-_/GPIO, 80 GRN7/GRN3/TXO1+_/GPIO, 81 GRN6/GRN2/TXO1-_/GPIO, 82 GRN5/GRN1/TXO0+_/GPIO, 83 GRN4/GRN0/TXO0-_/GPIO, 84 PVCC(2), 85 PGND(1), 86 GRN3/RED7/TXE3+, 87 GRN2/RED6/TXE3-, 88 RED7/RED5/TXEC+, 89 RED6/RED4/TXEC-, 90 RED5/RED3/TXE2+, 91 RED4/RED2/TXE2-, 92 RED3/RED1/TXE1+, 93 RED2/RED0/TXE1-, 94 TXE0+/DENA, 95 TXE0-/DHS, 96 GPIO/PWM0/DCLK, 97 GPIO/PWM1/DVS, 98 GPIO/PWM2, 99 GPIO/PWM3/TCON[11][_6], 100 GPIO/PWM4/TCON[12][_3], 101 GPIO/PWM5/TCON[0], 102 SD3/SPDIF3/TCON[10]/_GPIO/PWM0, 103 SD2/SPDIF2/TCON[8]/G_PIO/IICSCL/PWM1, 104 SD1/SPDIF1/TCON[5]/G_PIO/IRQB/IICSDA, 105 SD0/SPDIF0/TCON[9]/G_PIO, 106 PVCC(3), 107 PGND(2), 108 MCK/TCON[7]/GPIO, 109 SCK/TCON[3]/GPIO, 110 WS/TCON[6]/GPIO, 111 SD0/SPDIF0/TCON[4]/G_PIO, 112 SD1/SPDIF1/TCON[9]/G_PIO, 113 SD2/SPDIF2/TCON[1]/G_PIO/IRDA, 114 SD3/SPDIF3/TCON[13]/_GPIO/VCLK, 115 SPI_SCLK/SDIO, 116 SI/MCU_SCLK, 117 SO/SCSB, 118 CEB/IRQB, 119 NC(3), 120 VCCK(3), 121 DDCSCL3/GPIO, 122 DDCSDA3/GPIO, 123 DDCSDA2/GPIO, 124 DDCSCL2/GPIO, 125 RESETB, 126 CEC, 127 X0, 128 XI, 129 THERMAL_PAD

## SN65HVD3086E
designator U?
pins: 1 NC, 2 R, 3 ~{RE}, 4 DE, 5 D, 6 GND, 7 GND, 8 NYC, 9 Y, 10 Z, 11 B, 12 A, 13 Vcc, 14 Vcc

## SN74CB3Q3257
designator U?
Switch; Type: TSSOP16 P0.65
footprint TSSOP_E170_P0.65_16
pins: 1 S, 2 1B1, 3 1B2, 4 1A, 5 2B1, 6 2B2, 7 2A, 8 GND, 9 3A, 10 3B2, 11 3B1, 12 4A, 13 4B2, 14 4B1, 15 OE, 16 VCC

## SP6205
designator U?
Power; Type: SOT23-5
footprint SOT23-5
pins: 1 VIN, 2 GND, 3 EN (power), 4 BYP, 5 VOUT

## SPU0410HR5H
designator U?  (value not drawn)
footprint SPW2430HR5H-B
pins: 1 PWR, 2 GND, 3 GND, 4 Out
text: SPU0410HR5H‐PB

## ST8034C
designator U?
footprint QFN16
pins: 1 VDD(INTF), 2 RSTIN, 3 CS, 4 ~{CMDVCC}, 5 ~{PRES}, 6 I/O, 7 GND, 8 CLK, 9 RST, 10 Vcc, 11 VDDP, 12 VDD, 13 PROADJ, 14 ~{OFF}, 15 I/OUC, 16 CLKIN

## STM32F03xF
designator U?
MCU
footprint TSSOP_E170_P0.65_20
part A pins: 1 BOOT0, 2 OSC_IN, 3 OSC_OUT, 4 NRST, 5 VDDA, 15 VSS, 16 VDD
part B pins: 6 PA0, 7 PA1, 8 PA2, 9 PA3, 10 PA4, 11 PA5, 12 PA6, 13 PA7, 14 PB1, 17 PA9, 18 PA10, 19 PA13, 20 PA14

## STM32F4x1C
designator U?
MCU; Value: 100MHz; Type: QFN48 P0.5
footprint QFN_P0.5_48
part A pins: 1 VBAT, 5 OSC_IN, 6 OSC_OUT, 7 NRST, 8 VSSA, 9 VDDA, 22 VCAP1, 23 VSS_1, 24 VDD_1, 35 VSS_2, 36 VDD_2, 44 BOOT0, 47 VSS_3, 48 VDD_3, 49 PAD
part B pins: 2 PC13, 3 PC14, 4 PC15, 10 PA0, 11 PA1, 12 PA2, 13 PA3, 14 PA4, 15 PA5, 16 PA6, 17 PA7, 18 PB0, 19 PB1, 20 PB2, 21 PB10, 25 PB12, 26 PB13, 27 PB14, 28 PB15, 29 PA8, 30 PA9, 31 PA10, 32 PA11, 33 PA12, 34 PA13, 37 PA14, 38 PA15, 39 PB3, 40 PB4, 41 PB5, 42 PB6, 43 PB7, 45 PB8, 46 PB9

## STM32F04xG
designator U?
MCU
footprint QFN_P0.5_28
part A pins: 2 OSC_IN, 3 OSC_OUT, 4 NRST, 5 VDDA, 16 VSS, 17 VDD, 18 VDDIO2
part B pins: 1 PB8/BOOT0, 6 PA0, 7 PA1, 8 PA2, 9 PA3, 10 PA4, 11 PA5, 12 PA6, 13 PA7, 14 PB0, 15 PB1, 19 PA9, 20 PA10, 21 PA13, 22 PA14, 23 PA15, 24 PB3, 25 PB4, 26 PB5, 27 PB6, 28 PB7

## STM32F103C
designator U?
MCU; Type: LQFP48 P0.5
footprint LQFP_P0.5_48
part A pins: 1 VBAT, 5 OSC_IN, 6 OSC_OUT, 7 RST, 8 VSSA, 9 VDDA, 23 VSS_1, 24 VDD_1, 35 VSS_2, 36 VDD_2, 44 BOOT0, 47 VSS_3, 48 VDD_3
part B pins: 2 PC13, 3 PC14, 4 PC15, 10 PA0, 11 PA1, 12 PA2, 13 PA3, 14 PA4, 15 PA5, 16 PA6, 17 PA7, 18 PB0, 19 PB1, 20 PB2, 21 PB10, 22 PB11, 25 PB12, 26 PB13, 27 PB14, 28 PB15, 29 PA8, 30 PA9, 31 PA10, 32 PA11, 33 PA12, 34 PA13, 37 PA14, 38 PA15, 39 PB3, 40 PB4, 41 PB5, 42 PB6, 43 PB7, 45 PB8, 46 PB9

## STM32F103T
designator U?
MCU; Type: QFN36 P0.5
footprint QFN_P0.5_36
part A pins: 0 PAD, 1 VDD_3, 2 OSC_IN, 3 OSC_OUT, 4 RST, 5 VSSA, 6 VDDA, 18 VSS_1, 19 VDD_1, 26 VSS_2, 27 VDD_2, 35 BOOT0, 36 VSS_3
part B pins: 7 PA0, 8 PA1, 9 PA2, 10 PA3, 11 PA4, 12 PA5, 13 PA6, 14 PA7, 15 PB0, 16 PB1, 17 PB2, 20 PA8, 21 PA9, 22 PA10, 23 PA11, 24 PA12, 25 PA13, 28 PA14, 29 PA15, 30 PB3, 31 PB4, 32 PB5, 33 PB6, 34 PB7

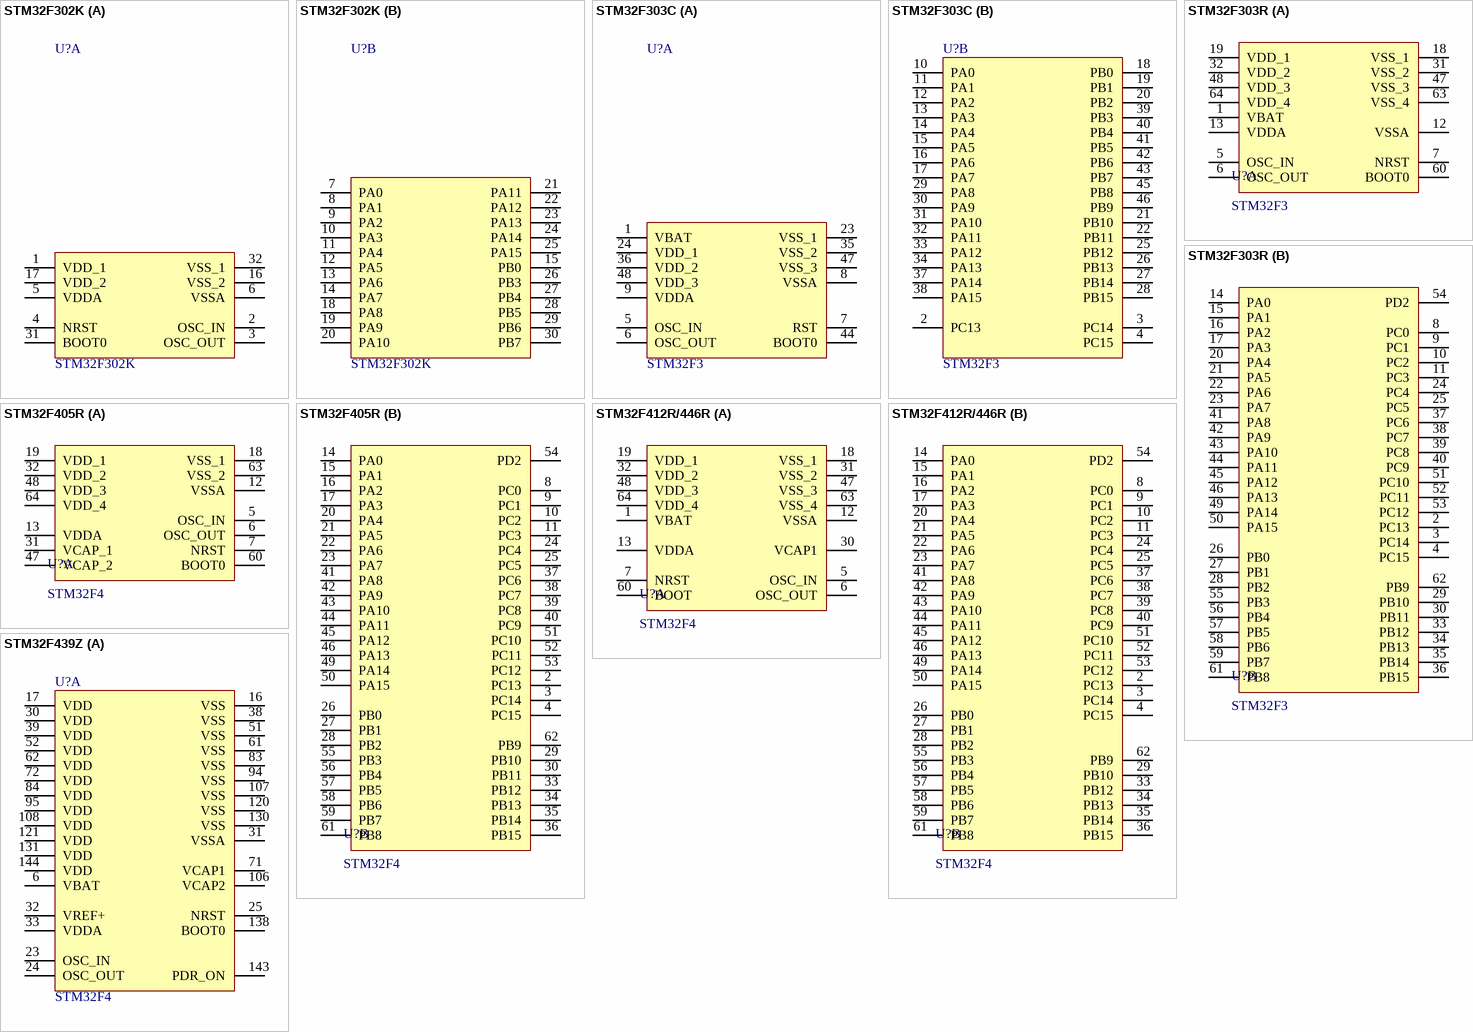
[diagram p97: symbols STM32F302K to STM32F439Z]

## STM32F302K
designator U?
MCU
footprint QFN_P0.5_32
part A pins: 1 VDD_1, 2 OSC_IN, 3 OSC_OUT, 4 NRST, 5 VDDA, 6 VSSA, 16 VSS_2, 17 VDD_2, 31 BOOT0, 32 VSS_1
part B pins: 7 PA0, 8 PA1, 9 PA2, 10 PA3, 11 PA4, 12 PA5, 13 PA6, 14 PA7, 15 PB0, 18 PA8, 19 PA9, 20 PA10, 21 PA11, 22 PA12, 23 PA13, 24 PA14, 25 PA15, 26 PB3, 27 PB4, 28 PB5, 29 PB6, 30 PB7

## STM32F303C
designator U?, comment STM32F3
MCU
footprint LQFP_P0.5_48
part A pins: 1 VBAT, 5 OSC_IN, 6 OSC_OUT, 7 RST, 8 VSSA, 9 VDDA, 23 VSS_1, 24 VDD_1, 35 VSS_2, 36 VDD_2, 44 BOOT0, 47 VSS_3, 48 VDD_3
part B pins: 2 PC13, 3 PC14, 4 PC15, 10 PA0, 11 PA1, 12 PA2, 13 PA3, 14 PA4, 15 PA5, 16 PA6, 17 PA7, 18 PB0, 19 PB1, 20 PB2, 21 PB10, 22 PB11, 25 PB12, 26 PB13, 27 PB14, 28 PB15, 29 PA8, 30 PA9, 31 PA10, 32 PA11, 33 PA12, 34 PA13, 37 PA14, 38 PA15, 39 PB3, 40 PB4, 41 PB5, 42 PB6, 43 PB7, 45 PB8, 46 PB9

## STM32F303R
designator U?, comment STM32F3
MCU
footprint LQFP_P0.5_64
part A pins: 1 VBAT, 5 OSC_IN, 6 OSC_OUT, 7 NRST, 12 VSSA, 13 VDDA, 18 VSS_1, 19 VDD_1, 31 VSS_2, 32 VDD_2, 47 VSS_3, 48 VDD_3, 60 BOOT0, 63 VSS_4, 64 VDD_4
part B pins: 2 PC13, 3 PC14, 4 PC15, 8 PC0, 9 PC1, 10 PC2, 11 PC3, 14 PA0, 15 PA1, 16 PA2, 17 PA3, 20 PA4, 21 PA5, 22 PA6, 23 PA7, 24 PC4, 25 PC5, 26 PB0, 27 PB1, 28 PB2, 29 PB10, 30 PB11, 33 PB12, 34 PB13, 35 PB14, 36 PB15, 37 PC6, 38 PC7, 39 PC8, 40 PC9, 41 PA8, 42 PA9, 43 PA10, 44 PA11, 45 PA12, 46 PA13, 49 PA14, 50 PA15, 51 PC10, 52 PC11, 53 PC12, 54 PD2, 55 PB3, 56 PB4, 57 PB5, 58 PB6, 59 PB7, 61 PB8, 62 PB9

## STM32F405R
designator U?, comment STM32F4
MCU
footprint LQFP_P0.5_64
part A pins: 5 OSC_IN, 6 OSC_OUT, 7 NRST, 12 VSSA, 13 VDDA, 18 VSS_1, 19 VDD_1, 31 VCAP_1, 32 VDD_2, 47 VCAP_2, 48 VDD_3, 60 BOOT0, 63 VSS_2, 64 VDD_4
part B pins: 2 PC13, 3 PC14, 4 PC15, 8 PC0, 9 PC1, 10 PC2, 11 PC3, 14 PA0, 15 PA1, 16 PA2, 17 PA3, 20 PA4, 21 PA5, 22 PA6, 23 PA7, 24 PC4, 25 PC5, 26 PB0, 27 PB1, 28 PB2, 29 PB10, 30 PB11, 33 PB12, 34 PB13, 35 PB14, 36 PB15, 37 PC6, 38 PC7, 39 PC8, 40 PC9, 41 PA8, 42 PA9, 43 PA10, 44 PA11, 45 PA12, 46 PA13, 49 PA14, 50 PA15, 51 PC10, 52 PC11, 53 PC12, 54 PD2, 55 PB3, 56 PB4, 57 PB5, 58 PB6, 59 PB7, 61 PB8, 62 PB9

## STM32F412R/446R
designator U?, comment STM32F4
MCU
footprint LQFP_P0.5_64
part A pins: 1 VBAT, 5 OSC_IN, 6 OSC_OUT, 7 NRST, 12 VSSA, 13 VDDA, 18 VSS_1, 19 VDD_1, 30 VCAP1, 31 VSS_2, 32 VDD_2, 47 VSS_3, 48 VDD_3, 60 BOOT, 63 VSS_4, 64 VDD_4
part B pins: 2 PC13, 3 PC14, 4 PC15, 8 PC0, 9 PC1, 10 PC2, 11 PC3, 14 PA0, 15 PA1, 16 PA2, 17 PA3, 20 PA4, 21 PA5, 22 PA6, 23 PA7, 24 PC4, 25 PC5, 26 PB0, 27 PB1, 28 PB2, 29 PB10, 33 PB12, 34 PB13, 35 PB14, 36 PB15, 37 PC6, 38 PC7, 39 PC8, 40 PC9, 41 PA8, 42 PA9, 43 PA10, 44 PA11, 45 PA12, 46 PA13, 49 PA14, 50 PA15, 51 PC10, 52 PC11, 53 PC12, 54 PD2, 55 PB3, 56 PB4, 57 PB5, 58 PB6, 59 PB7, 61 PB8, 62 PB9

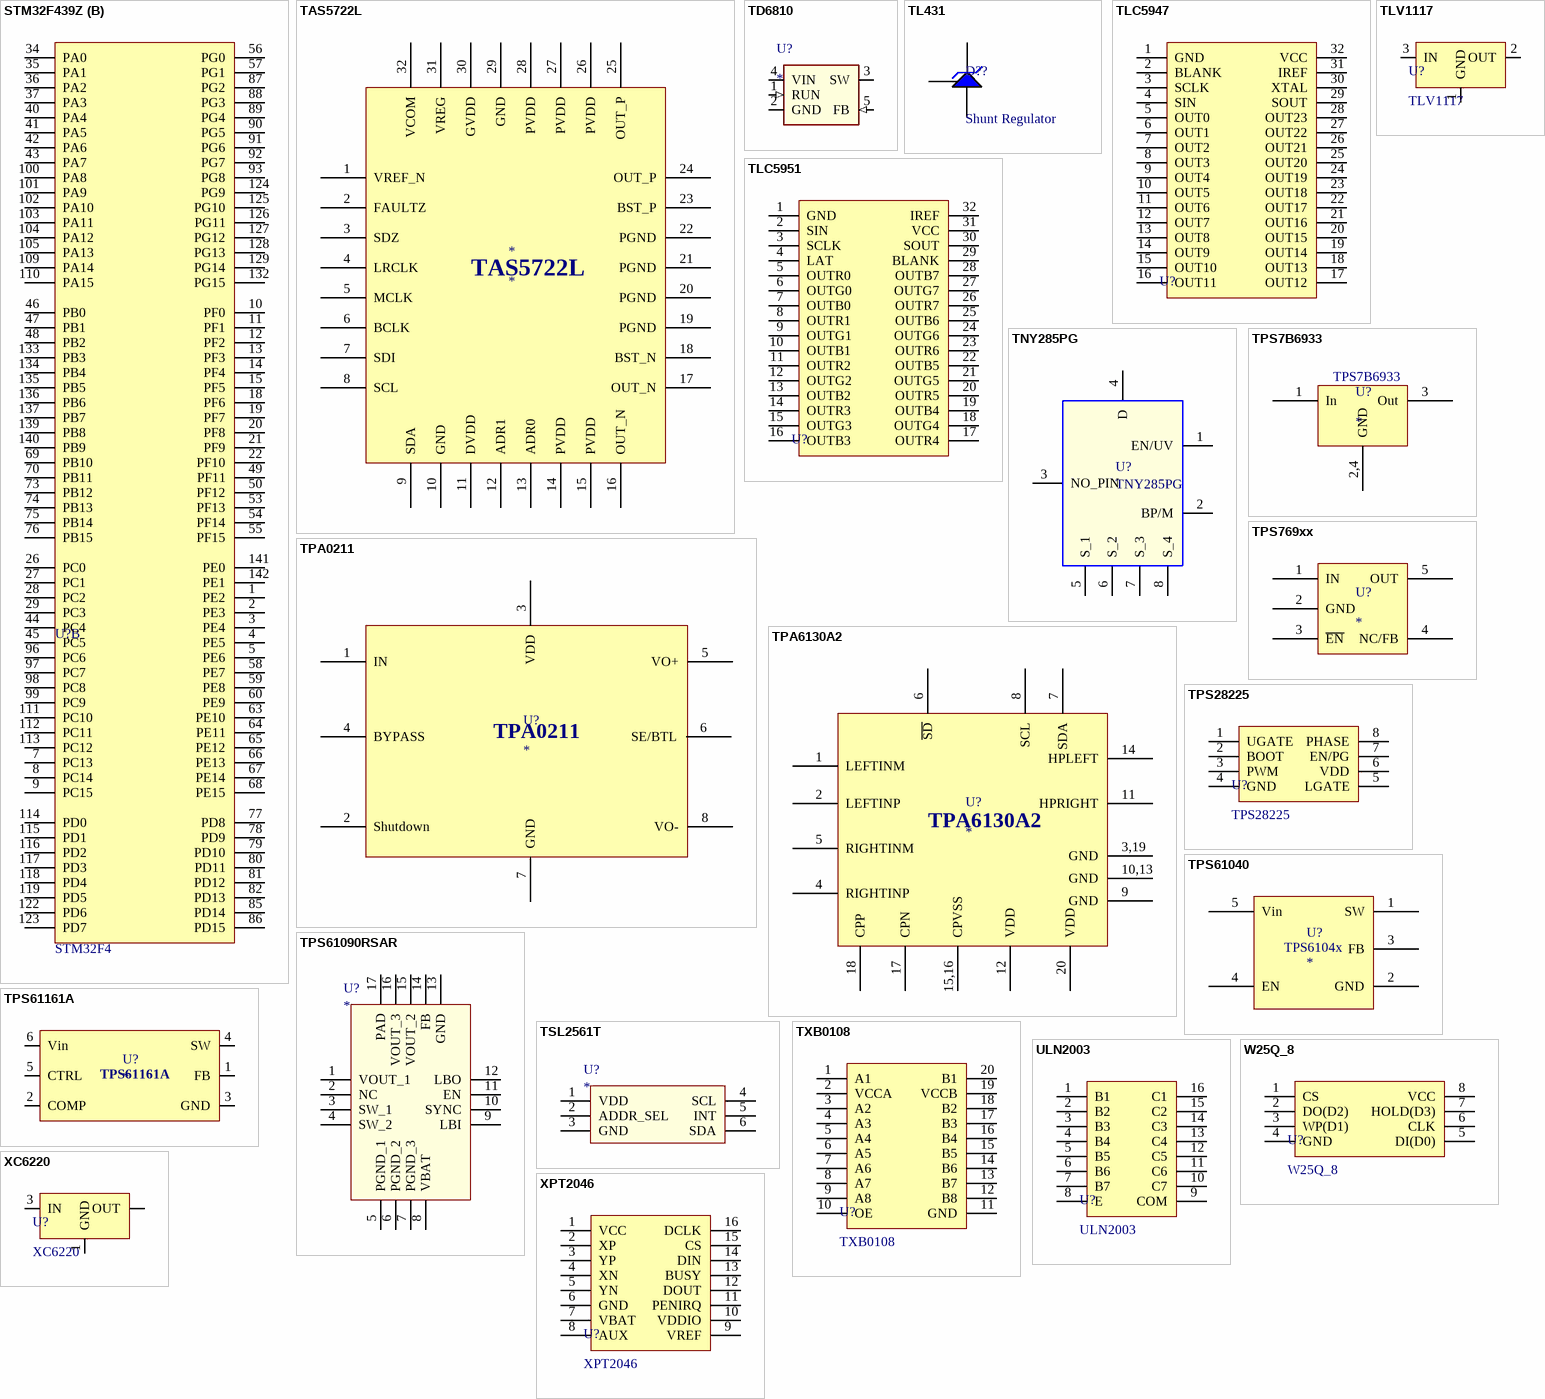
[diagram p98: symbols STM32F439Z to XPT2046]

## STM32F439Z
designator U?, comment STM32F4
MCU
footprint LQFP_P0.5_144
part A pins: 6 VBAT, 16 VSS, 17 VDD, 23 OSC_IN, 24 OSC_OUT, 25 NRST, 30 VDD, 31 VSSA, 32 VREF+, 33 VDDA, 38 VSS, 39 VDD, 51 VSS, 52 VDD, 61 VSS, 62 VDD, 71 VCAP1, 72 VDD, 83 VSS, 84 VDD, 94 VSS, 95 VDD, 106 VCAP2, 107 VSS, 108 VDD, 120 VSS, 121 VDD, 130 VSS, 131 VDD, 138 BOOT0, 143 PDR_ON, 144 VDD
part B pins: 1 PE2, 2 PE3, 3 PE4, 4 PE5, 5 PE6, 7 PC13, 8 PC14, 9 PC15, 10 PF0, 11 PF1, 12 PF2, 13 PF3, 14 PF4, 15 PF5, 18 PF6, 19 PF7, 20 PF8, 21 PF9, 22 PF10, 26 PC0, 27 PC1, 28 PC2, 29 PC3, 34 PA0, 35 PA1, 36 PA2, 37 PA3, 40 PA4, 41 PA5, 42 PA6, 43 PA7, 44 PC4, 45 PC5, 46 PB0, 47 PB1, 48 PB2, 49 PF11, 50 PF12, 53 PF13, 54 PF14, 55 PF15, 56 PG0, 57 PG1, 58 PE7, 59 PE8, 60 PE9, 63 PE10, 64 PE11, 65 PE12, 66 PE13, 67 PE14, 68 PE15, 69 PB10, 70 PB11, 73 PB12, 74 PB13, 75 PB14, 76 PB15, 77 PD8, 78 PD9, 79 PD10, 80 PD11, 81 PD12, 82 PD13, 85 PD14, 86 PD15, 87 PG2, 88 PG3, 89 PG4, 90 PG5, 91 PG6, 92 PG7, 93 PG8, 96 PC6, 97 PC7, 98 PC8, 99 PC9, 100 PA8, 101 PA9, 102 PA10, 103 PA11, 104 PA12, 105 PA13, 109 PA14, 110 PA15, 111 PC10, 112 PC11, 113 PC12, 114 PD0, 115 PD1, 116 PD2, 117 PD3, 118 PD4, 119 PD5, 122 PD6, 123 PD7, 124 PG9, 125 PG10, 126 PG11, 127 PG12, 128 PG13, 129 PG14, 132 PG15, 133 PB3, 134 PB4, 135 PB5, 136 PB6, 137 PB7, 139 PB8, 140 PB9, 141 PE0, 142 PE1

## TAS5722L
designator *
pins: 1 VREF_N, 2 FAULTZ, 3 SDZ, 4 LRCLK, 5 MCLK, 6 BCLK, 7 SDI, 8 SCL, 9 SDA, 10 GND, 11 DVDD, 12 ADR1, 13 ADR0, 14 PVDD, 15 PVDD, 16 OUT_N, 17 OUT_N, 18 BST_N, 19 PGND, 20 PGND, 21 PGND, 22 PGND, 23 BST_P, 24 OUT_P, 25 OUT_P, 26 PVDD, 27 PVDD, 28 PVDD, 29 GND, 30 GVDD, 31 VREG, 32 VCOM

## TD6810
designator U?
footprint SOT23
pins: 1 RUN (in), 2 GND (power), 3 SW (power), 4 VIN (power), 5 FB (in)

## TL431
designator D??, comment Shunt Regulator
Published: 8-Jun-2000; LatestRevisionDate: 17-Jul-2002; LatestRevisionNote: Re-released for DXP Platform.; PackageReference: DIODE-0.7; Publisher: Altium Limited; PackageDescription: Diode, Thru-Hole; 2 Leads; 0.7 in Pin Spacing
footprint TL431_SOT23
footprint SOT23-3
pins: 1 K, 2 Ref, 3 A

## TLC5947
designator U?  (value not drawn)
LED Driver
footprint TSSOP_E250H_P0.65_32
pins: 1 GND, 2 BLANK, 3 SCLK, 4 SIN, 5 OUT0, 6 OUT1, 7 OUT2, 8 OUT3, 9 OUT4, 10 OUT5, 11 OUT6, 12 OUT7, 13 OUT8, 14 OUT9, 15 OUT10, 16 OUT11, 17 OUT12, 18 OUT13, 19 OUT14, 20 OUT15, 21 OUT16, 22 OUT17, 23 OUT18, 24 OUT19, 25 OUT20, 26 OUT21, 27 OUT22, 28 OUT23, 29 SOUT, 30 XTAL, 31 IREF, 32 VCC

## TLC5951
designator U?  (value not drawn)
LED Driver
footprint TSSOP_E250H_P0.65_32
pins: 1 GND, 2 SIN, 3 SCLK, 4 LAT, 5 OUTR0, 6 OUTG0, 7 OUTB0, 8 OUTR1, 9 OUTG1, 10 OUTB1, 11 OUTR2, 12 OUTG2, 13 OUTB2, 14 OUTR3, 15 OUTG3, 16 OUTB3, 17 OUTR4, 18 OUTG4, 19 OUTB4, 20 OUTR5, 21 OUTG5, 22 OUTB5, 23 OUTR6, 24 OUTG6, 25 OUTB6, 26 OUTR7, 27 OUTG7, 28 OUTB7, 29 BLANK, 30 SOUT, 31 VCC, 32 IREF

## TLV1117
designator U?
Power
footprint SOT223-3
pins: 1 GND (power), 2 OUT (power), 3 IN (power)

## TNY285PG
designator U?
footprint TNY285PG
pins: 1 EN/UV, 2 BP/M, 3 NO_PIN, 4 D, 5 S_1, 6 S_2, 7 S_3, 8 S_4

## TPA0211
designator U?
footprint S-PDSO-G8
pins: 1 IN, 2 Shutdown, 3 VDD, 4 BYPASS, 5 VO+, 6 SE/BTL, 7 GND, 8 VO-

## TPA6130A2
designator U?
footprint WQFN20
pins: 1 LEFTINM, 2 LEFTINP, 3,19 GND, 4 RIGHTINP, 5 RIGHTINM, 6 ~{SD}, 7 SDA, 8 SCL, 9 GND, 10,13 GND, 11 HPRIGHT, 12 VDD, 14 HPLEFT, 15,16 CPVSS, 17 CPN, 18 CPP, 20 VDD

## TPS7B6933
designator U?
footprint SOT223 (SOT223, 4-Leads, Body 6.50x7.00mm (avg), Pitch 2.30mm, IPC Medium Density)
pins: 1 In, 2,4 GND, 3 Out

## TPS769xx
designator U?
pins: 1 IN, 2 GND, 3 ~{EN}, 4 NC/FB, 5 OUT

## TPS28225
designator U?
MOSFET Driver
footprint SOP_E150_8
pins: 1 UGATE, 2 BOOT, 3 PWM, 4 GND, 5 LGATE, 6 VDD, 7 EN/PG, 8 PHASE

## TPS61040
designator U?
footprint SOT23
pins: 1 SW, 2 GND, 3 FB, 4 EN, 5 Vin
text: TPS6104x

## TPS61090RSAR
designator U?
footprint QFN65P400X400X100-17N
pins: 1 VOUT_1, 2 NC, 3 SW_1, 4 SW_2, 5 PGND_1, 6 PGND_2, 7 PGND_3, 8 VBAT, 9 LBI, 10 SYNC, 11 EN, 12 LBO, 13 GND, 14 FB, 15 VOUT_2, 16 VOUT_3, 17 PAD

## TPS61161A
designator U?
footprint WSON-6
pins: 1 FB, 2 COMP, 3 GND, 4 SW, 5 CTRL, 6 Vin

## TSL2561T
designator U?
footprint TMB-6
pins: 1 VDD, 2 ADDR_SEL, 3 GND, 4 SCL, 5 INT, 6 SDA

## TXB0108
designator U?
VoltageLevel
footprint TSSOP_E170_P0.65_20
pins: 1 A1, 2 VCCA, 3 A2, 4 A3, 5 A4, 6 A5, 7 A6, 8 A7, 9 A8, 10 OE, 11 GND, 12 B8, 13 B7, 14 B6, 15 B5, 16 B4, 17 B3, 18 B2, 19 VCCB, 20 B1

## ULN2003
designator U?
Driver
footprint SOP_E150_16
footprint DIP_300_16
pins: 1 B1, 2 B2, 3 B3, 4 B4, 5 B5, 6 B6, 7 B7, 8 E, 9 COM, 10 C7, 11 C6, 12 C5, 13 C4, 14 C3, 15 C2, 16 C1

## W25Q_8
designator U?
FLASH
footprint SOIC_E200_8
footprint SON_P1.27H_8 (SON, 8-Leads, Body 5.00x6.00mm, Pitch 1.27mm, Thermal Pad 3.40x4.30mm, IPC High Density)
pins: 1 CS, 2 DO(D2), 3 WP(D1), 4 GND, 5 DI(D0), 6 CLK, 7 HOLD(D3), 8 VCC

## XC6220
designator U?
Power
footprint SOT89-3
pins: 1 GND (power), 2 OUT (power), 3 IN (power)

## XPT2046
designator U?
Touch
footprint TSSOP_E170_P0.65_16
pins: 1 VCC, 2 XP, 3 YP, 4 XN, 5 YN, 6 GND, 7 VBAT, 8 AUX, 9 VREF, 10 VDDIO, 11 PENIRQ, 12 DOUT, 13 BUSY, 14 DIN, 15 CS, 16 DCLK